# Altium schematic symbol library Schlib1.SchLib: 218 symbols (part 2 of 3)
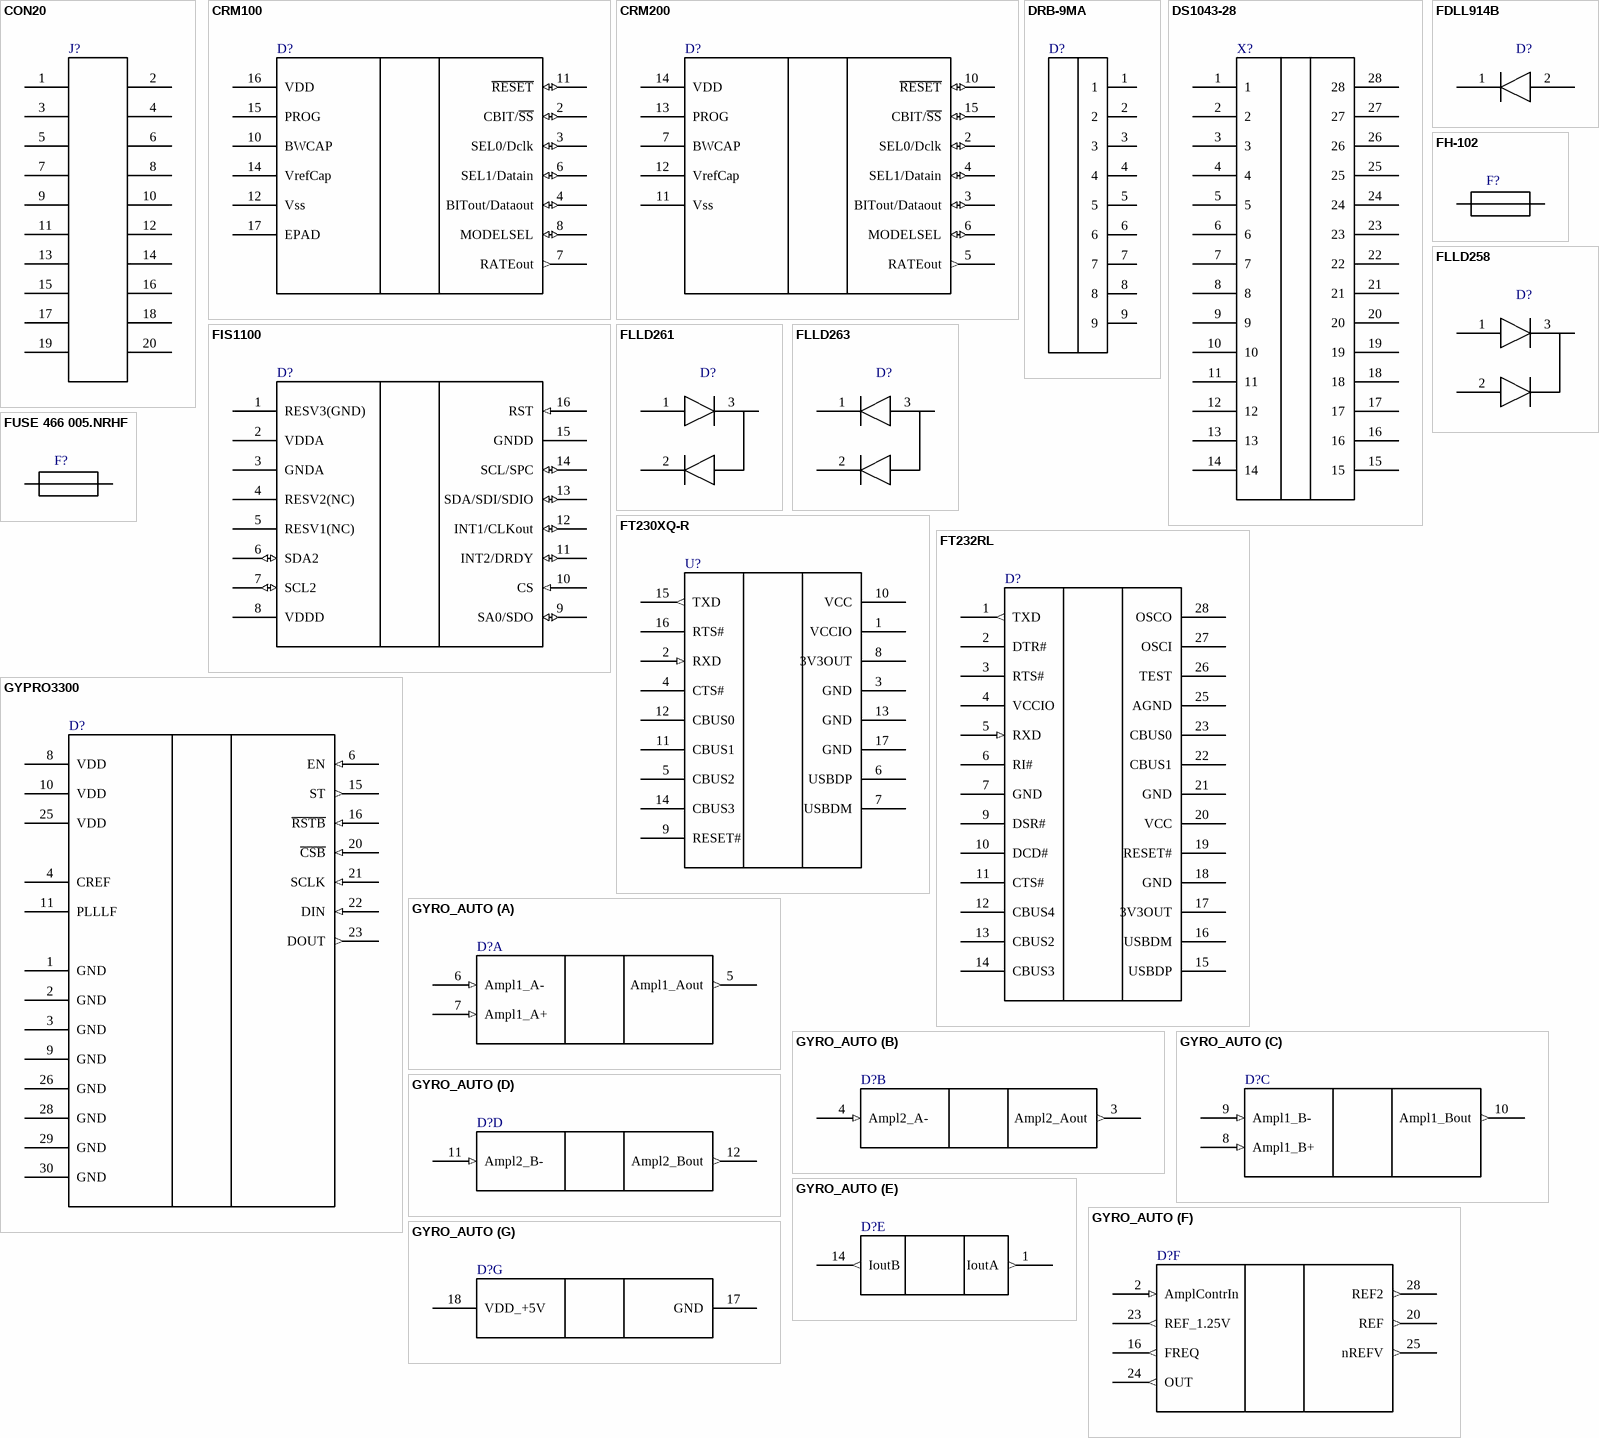
[diagram p18: symbols CON20 to GYRO_AUTO]

## FLLD261
designator D?  (value not drawn)
Manufacturer: Fairchild Semiconductor; Value: FLLD261
footprint SOT-23_DIODE (SOT23, 3-Leads, Body 2.92x2.30mm, Pitch 0.95mm, IPC High Density)
pins: 1, 2, 3

## FLLD263
designator D?  (value not drawn)
Manufacturer: Zetex; Value: FLLD263
footprint SOT-23_DIODE (SOT23, 3-Leads, Body 2.92x2.30mm, Pitch 0.95mm, IPC High Density)
pins: 1, 2, 3

## FT230XQ-R
designator U?  (value not drawn)
RS232 Driver/Receiver; Manufacturer: FTDI; Value: FT230XQ-R
footprint FT230XQ-R (QFN, 16-Leads, Body 4.00x4.00mm, Pitch 0.65mm, Thermal Pad 2.08x2.08mm, IPC High Density)
pins: 1 VCCIO (power), 2 RXD (in), 3 GND (power), 4 CTS#, 5 CBUS2, 6 USBDP, 7 USBDM, 8 3V3OUT (power), 9 RESET#, 10 VCC (power), 11 CBUS1, 12 CBUS0, 13 GND (power), 14 CBUS3, 15 TXD (out), 16 RTS#, 17 GND (power)

## FT232RL
designator D?  (value not drawn)
RS232 Driver/Receiver; Manufacturer: FTDI; Value: FT232RL
footprint FTR232RL (SOP, 28-Leads, Body 10.20x5.30mm, Pitch 0.65mm, IPC High Density)
pins: 1 TXD (out), 2 DTR#, 3 RTS#, 4 VCCIO (power), 5 RXD (in), 6 RI#, 7 GND (power), 8 NC hidden, 9 DSR#, 10 DCD#, 11 CTS#, 12 CBUS4, 13 CBUS2, 14 CBUS3, 15 USBDP, 16 USBDM, 17 3V3OUT (power), 18 GND (power), 19 RESET#, 20 VCC (power), 21 GND (power), 22 CBUS1, 23 CBUS0, 24 NC hidden, 25 AGND (power), 26 TEST, 27 OSCI, 28 OSCO

## FUSE 466 005.NRHF
designator F?, comment 466 005.NRHF  (value not drawn)
1206 466 005.NRHF fuse; Value: 466 005.NRHF
footprint FUSE466 005.NRHF (FUSE 5A 1206)
pins: 1, 2

## GYPRO3300
designator D?  (value not drawn)
Value: GYPRO3300
footprint GYPRO3300 (LCC, 30-Pins, Body 11.50x19.56mmx3.70mm, Pitch 1.27mm, IPC High Density)
pins: 1 GND (power), 2 GND (power), 3 GND (power), 4 CREF, 5 DNC hidden, 6 EN (in), 7 DNC hidden, 8 VDD (power), 9 GND (power), 10 VDD (power), 11 PLLLF, 12 DNC hidden, 13 DNC hidden, 14 DNC hidden, 15 ST (out), 16 ~{RSTB} (in), 17 DNC hidden, 18 DNC hidden, 19 DNC hidden, 20 ~{CSB} (in), 21 SCLK (in), 22 DIN (in), 23 DOUT (out), 24 DNC hidden, 25 VDD (power), 26 GND (power), 27 DNC hidden, 28 GND (power), 29 GND (power), 30 GND (power)

## GYRO_AUTO
designator D?, comment GYRO_AUTO_MIET  (value not drawn)
Interface 9 Gyro auto; Manufacturer: MIET; Value: GYRO_AUTO_MIET
footprint GYRO_AUTO (Interface 9 gyro auto)
part A pins: 5 Ampl1_Aout (out), 6 Ampl1_A- (in), 7 Ampl1_A+ (in), 13 (in) hidden, 15 (in) hidden, 19 (in) hidden, 21 (in) hidden, 22 (in) hidden, 26 (in) hidden, 27 (in) hidden
part B pins: 3 Ampl2_Aout (out), 4 Ampl2_A- (in)
part C pins: 8 Ampl1_B+ (in), 9 Ampl1_B- (in), 10 Ampl1_Bout (out)
part D pins: 11 Ampl2_B- (in), 12 Ampl2_Bout (out)
part E pins: 1 IoutA (out), 14 IoutB (out)
part F pins: 2 AmplContrIn (in), 16 FREQ (out), 20 REF (out), 23 REF_1.25V (out), 24 OUT (out), 25 nREFV (out), 28 REF2 (out)
part G pins: 17 GND (power), 18 VDD_+5V (power)

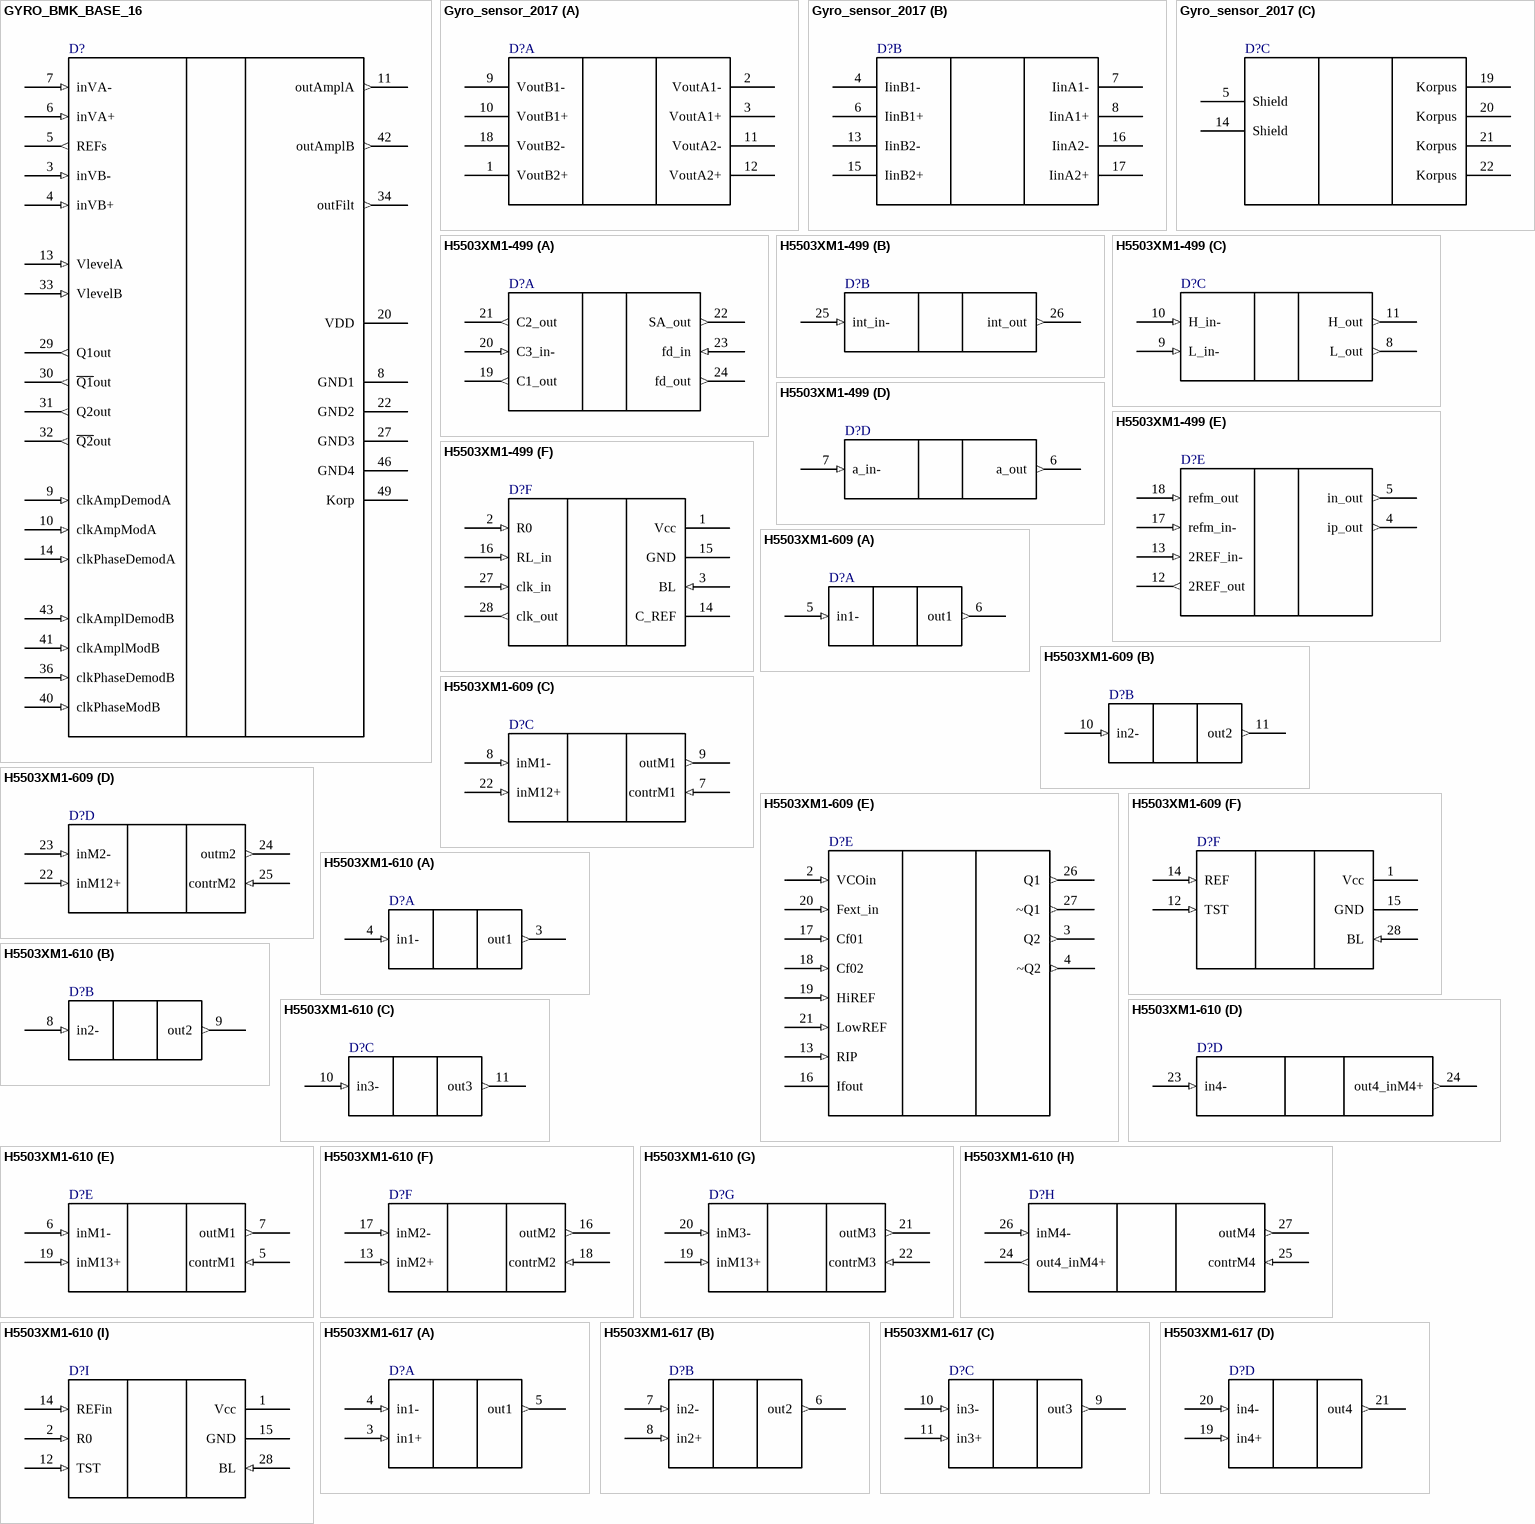
[diagram p6: symbols GYRO_BMK_BASE_16 to H5503XM1-617]

## GYRO_BMK_BASE_16
designator D?  (value not drawn)
Manufacturer: MIET; Value: GYRO_BMK_BASE_16
footprint GYRO_BMK_BASE_16
pins: 1 DNC (hiz) hidden, 2 DNC (hiz) hidden, 3 inVB- (in), 4 inVB+ (in), 5 REFs (out), 6 inVA+ (in), 7 inVA- (in), 8 GND1 (power), 9 clkAmpDemodA (in), 10 clkAmpModA (in), 11 outAmplA (out), 12 DNC (hiz) hidden, 13 VlevelA (in), 14 clkPhaseDemodA (in), 15 DNC (hiz) hidden, 16 DNC (hiz) hidden, 17 DNC (hiz) hidden, 18 DNC (hiz) hidden, 19 DNC (hiz) hidden, 20 VDD (power), 21 DNC (hiz) hidden, 22 GND2 (power), 23 DNC (hiz) hidden, 24 DNC (hiz) hidden, 25 DNC (hiz) hidden, 26 DNC (hiz) hidden, 27 GND3 (power), 28 DNC (hiz) hidden, 29 Q1out (out), 30 ~{Q1}out (out), 31 Q2out (out), 32 ~{Q2}out (out), 33 VlevelB (in), 34 outFilt (out), 35 DNC (hiz) hidden, 36 clkPhaseDemodB (in), 37 DNC (hiz) hidden, 38 DNC (hiz) hidden, 39 DNC (hiz) hidden, 40 clkPhaseModB (in), 41 clkAmplModB (in), 42 outAmplB (out), 43 clkAmplDemodB (in), 44 DNC (hiz) hidden, 45 DNC (hiz) hidden, 46 GND4 (power), 47 DNC (hiz) hidden, 48 DNC (hiz) hidden, 49 Korp

## Gyro_sensor_2017
designator D?, comment Gyro_Sensor  (value not drawn)
Manufacturer: MIET; Value: Gyro_Sensor
footprint Gyro_Sens_MIET_2017 (Ring gyroscope's sensor)
part A pins: 1 VoutB2+, 2 VoutA1-, 3 VoutA1+, 9 VoutB1-, 10 VoutB1+, 11 VoutA2-, 12 VoutA2+, 18 VoutB2-
part B pins: 4 IinB1-, 6 IinB1+, 7 IinA1-, 8 IinA1+, 13 IinB2-, 15 IinB2+, 16 IinA2-, 17 IinA2+
part C pins: 5 Shield, 14 Shield, 19 Korpus, 20 Korpus, 21 Korpus, 22 Korpus

## H5503XM1-499
designator D?  (value not drawn)
Value: H5503XM1-499
footprint LCC28 (LCC28, BMK, tcentr)
part A pins: 19 C1_out (out), 20 C3_in- (in), 21 C2_out (out), 22 SA_out (out), 23 fd_in (in), 24 fd_out (out)
part B pins: 25 int_in- (in), 26 int_out (out)
part C pins: 8 L_out (out), 9 L_in- (in), 10 H_in- (in), 11 H_out (out)
part D pins: 6 a_out (out), 7 a_in- (in)
part E pins: 4 ip_out (out), 5 in_out (out), 12 2REF_out (out), 13 2REF_in- (in), 17 refm_in- (in), 18 refm_out (in)
part F pins: 1 Vcc (power), 2 R0 (in), 3 BL (in), 14 C_REF, 15 GND (power), 16 RL_in (in), 27 clk_in (in), 28 clk_out (out)

## H5503XM1-609
designator D?  (value not drawn)
BMK, tcentr, firmware 609; Value: H5503XM1-609; Manufaturer: TCentr
footprint LCC28 (LCC28, BMK, tcentr)
part A pins: 5 in1- (in), 6 out1 (out)
part B pins: 10 in2- (in), 11 out2 (out)
part C pins: 7 contrM1 (in), 8 inM1- (in), 9 outM1 (out), 22 inM12+ (in)
part D pins: 22 inM12+ (in), 23 inM2- (in), 24 outm2 (out), 25 contrM2 (in)
part E pins: 2 VCOin (in), 3 Q2 (out), 4 ~Q2 (out), 13 RIP (in), 16 Ifout, 17 Cf01 (in), 18 Cf02 (in), 19 HiREF (in), 20 Fext_in (in), 21 LowREF (in), 26 Q1 (out), 27 ~Q1 (out)
part F pins: 1 Vcc (power), 12 TST (in), 14 REF (in), 15 GND (power), 28 BL (in)

## H5503XM1-610
designator D?  (value not drawn)
BMK, tcentr, firmware 610; Value: H5503XM1-610; Manufacturer: TCentr
footprint LCC28 (LCC28, BMK, tcentr)
part A pins: 3 out1 (out), 4 in1- (in)
part B pins: 8 in2- (in), 9 out2 (out)
part C pins: 10 in3- (in), 11 out3 (out)
part D pins: 23 in4- (in), 24 out4_inM4+ (out)
part E pins: 5 contrM1 (in), 6 inM1- (in), 7 outM1 (out), 19 inM13+ (in)
part F pins: 13 inM2+ (in), 16 outM2 (out), 17 inM2- (in), 18 contrM2 (in)
part G pins: 19 inM13+ (in), 20 inM3- (in), 21 outM3 (out), 22 contrM3 (in)
part H pins: 24 out4_inM4+ (out), 25 contrM4 (in), 26 inM4- (in), 27 outM4 (out)
part I pins: 1 Vcc (power), 2 R0 (in), 12 TST (in), 14 REFin (in), 15 GND (power), 28 BL (in)

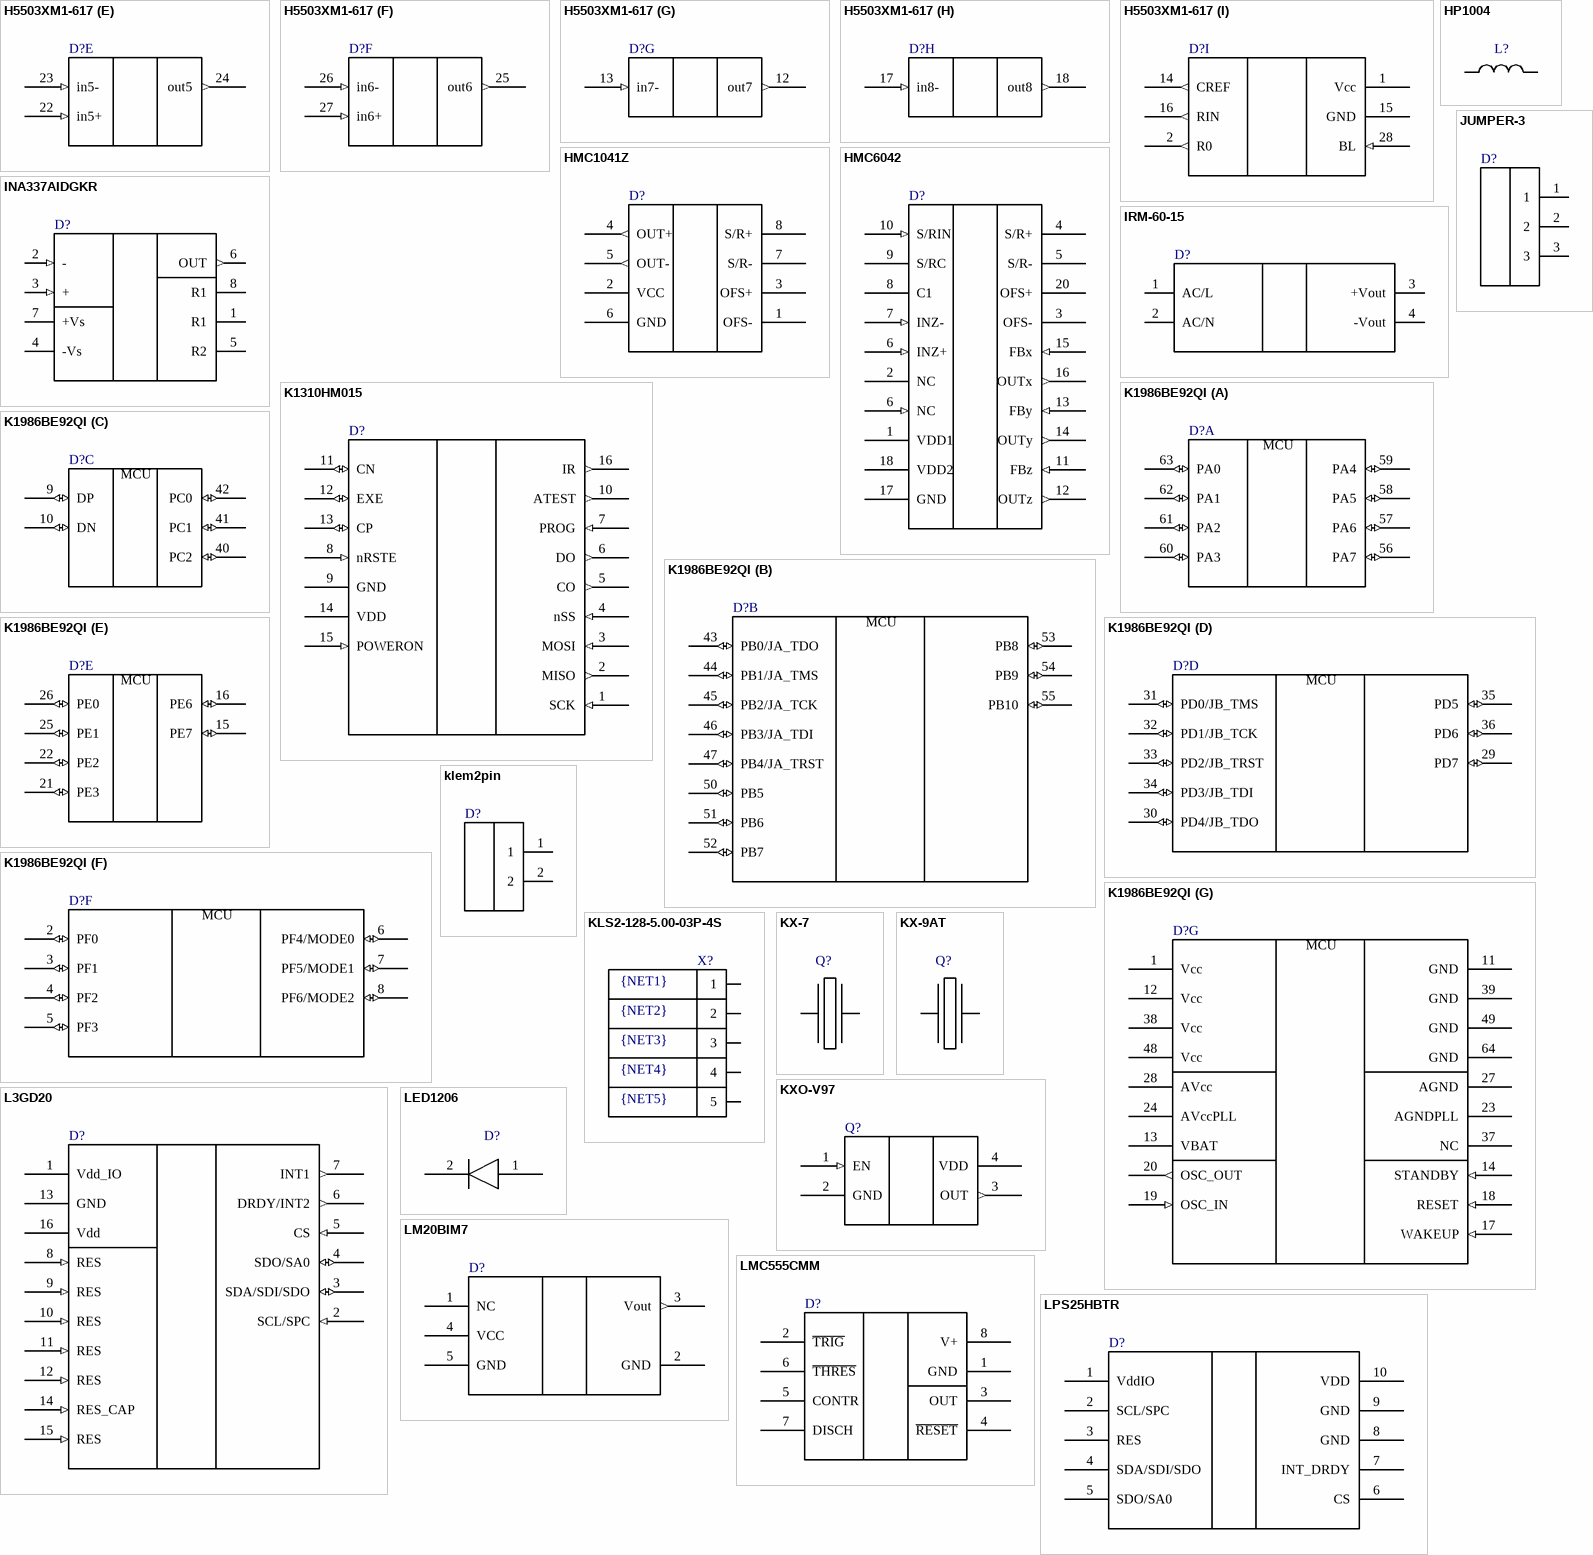
[diagram p7: symbols H5503XM1-617 to LPS25HBTR]

## H5503XM1-617
designator D?  (value not drawn)
BMK, tcentr, firmware 617; Value: H5503XM1-617; Manufacturer: TCentr
footprint LCC28 (LCC28, BMK, tcentr)
part A pins: 3 in1+ (in), 4 in1- (in), 5 out1 (out)
part B pins: 6 out2 (out), 7 in2- (in), 8 in2+ (in)
part C pins: 9 out3 (out), 10 in3- (in), 11 in3+ (in)
part D pins: 19 in4+ (in), 20 in4- (in), 21 out4 (out)
part E pins: 22 in5+ (in), 23 in5- (in), 24 out5 (out)
part F pins: 25 out6 (out), 26 in6- (in), 27 in6+ (in)
part G pins: 12 out7 (out), 13 in7- (in)
part H pins: 17 in8- (in), 18 out8 (out)
part I pins: 1 Vcc (power), 2 R0 (out), 14 CREF (out), 15 GND (power), 16 RIN (out), 28 BL (in)

## HMC1041Z
designator D?  (value not drawn)
Manufacturer: Honeywell; Value: HMC1041Z
footprint HMC1041Z (LCC, 8-Pins, Body 1.25x4.10mmx1.23mm, Pitch 0.50mm, IPC High Density)
pins: 1 OFS-, 2 VCC (power), 3 OFS+, 4 OUT+ (out), 5 OUT- (out), 6 GND (power), 7 S/R-, 8 S/R+

## HMC6042
designator D?  (value not drawn)
Manufacturer: Honeywell; Value: HMC6042
footprint HMC6042 (LCC, 20-Pins, Body 5.00x3.60mmx1.23mm, Pitch 0.50mm, IPC High Density)
pins: 1 VDD1 (power), 2 NC, 3 OFS-, 4 S/R+, 5 S/R-, 6 INZ+ (in), 6 NC (in), 7 INZ- (in), 8 C1, 9 S/RC, 10 S/RIN (in), 11 FBz (in), 12 OUTz (out), 13 FBy (in), 14 OUTy (out), 15 FBx (in), 16 OUTx (out), 17 GND (power), 18 VDD2 (power), 20 OFS+

## HP1004
designator L?  (value not drawn)
inductor HP1004; Value: *; Manufacturer: *
footprint HP1004 (Chip Inductor, 2-Leads, Body 11.30x10.50mm, IPC High Density)
pins: 1, 2

## INA337AIDGKR
designator D?  (value not drawn)
Wide-Temperature, Precision INSTRUMENTATION AMPLIFIER; Manufacturer: Texas Instruments; Value: INA337AIDGKR
footprint ADI-RM-8 (SOP, 8-Leads, Body 3x3mm, Pitch 0.65mm, IPC High Density)
pins: 1 R1, 2 - (in), 3 + (in), 4 -Vs (power), 5 R2, 6 OUT (out), 7 +Vs (power), 8 R1

## IRM-60-15
designator D?  (value not drawn)
AC/DC converter; Manufacturer: Mean Well; Value: IRM-60-15
footprint IRM-60-15 (AC/DC MeanWell)
pins: 1 AC/L, 2 AC/N, 3 +Vout, 4 -Vout

## JUMPER-3
designator D?  (value not drawn)
Value: JUMPER-3
footprint JUMPER-3
pins: 1, 2, 3

## K1310HM015
designator D?  (value not drawn)
Capacitance-to-digital converter; HelpURL: http://milandr.ru/index.php?mact=Products,cntnt01,details,0&cntnt01productid=288&cntnt01returnid=68
footprint 5119.16-A (Milandr 5119.16-A)
pins: 1 SCK (in), 2 MISO (out), 3 MOSI (in), 4 nSS (in), 5 CO (out), 6 DO (out), 7 PROG (in), 8 nRSTE (in), 9 GND (power), 10 ATEST (out), 11 CN (io), 12 EXE (io), 13 CP (io), 14 VDD (power), 15 POWERON (in), 16 IR (out)

## K1986BE92QI
designator D?  (value not drawn)
32-разрядный микроконтроллер на базе процессорного ядра ARM Cortex-M3; Manufacturer: МИЛАНДР; Value: K1986BE92QI; HelpURL: http://milandr.ru/uploads/Products/product_80/spec_seriya_1986BE9x.pdf
footprint LQFP64-Milandr (TSQFP, 64-Leads, Body 10.00x10.00mm, Pitch 0.50mm, IPC High Density)
part A pins: 56 PA7 (io), 57 PA6 (io), 58 PA5 (io), 59 PA4 (io), 60 PA3 (io), 61 PA2 (io), 62 PA1 (io), 63 PA0 (io)
part B pins: 43 PB0/JA_TDO (io), 44 PB1/JA_TMS (io), 45 PB2/JA_TCK (io), 46 PB3/JA_TDI (io), 47 PB4/JA_TRST (io), 50 PB5 (io), 51 PB6 (io), 52 PB7 (io), 53 PB8 (io), 54 PB9 (io), 55 PB10 (io)
part C pins: 9 DP (io), 10 DN (io), 40 PC2 (io), 41 PC1 (io), 42 PC0 (io)
part D pins: 29 PD7 (io), 30 PD4/JB_TDO (io), 31 PD0/JB_TMS (io), 32 PD1/JB_TCK (io), 33 PD2/JB_TRST (io), 34 PD3/JB_TDI (io), 35 PD5 (io), 36 PD6 (io)
part E pins: 15 PE7 (io), 16 PE6 (io), 21 PE3 (io), 22 PE2 (io), 25 PE1 (io), 26 PE0 (io)
part F pins: 2 PF0 (io), 3 PF1 (io), 4 PF2 (io), 5 PF3 (io), 6 PF4/MODE0 (io), 7 PF5/MODE1 (io), 8 PF6/MODE2 (io)
part G pins: 1 Vcc (power), 11 GND (power), 12 Vcc (power), 13 VBAT (power), 14 STANDBY (in), 17 WAKEUP (in), 18 RESET (in), 19 OSC_IN (in), 20 OSC_OUT (out), 23 AGNDPLL (power), 24 AVccPLL (power), 27 AGND (power), 28 AVcc (power), 37 NC, 38 Vcc (power), 39 GND (power), 48 Vcc (power), 49 GND (power), 64 GND (power)
part A text: MCU
part B text: MCU
part C text: MCU
part D text: MCU
part E text: MCU
part F text: MCU
part G text: MCU

## klem2pin
designator D?, comment DG308-2.54-02P-14-00AH  (value not drawn)
Value: DG308-2.54-02P-14-00AH
footprint DG308-2.54-02P-14-00AH
pins: 1, 2

## KLS2-128-5.00-03P-4S
designator X?  NET1: {NET1}  NET2: {NET2}  NET3: {NET3}  NET4: {NET4}  NET5: {NET5}  (hidden comment: KLS2-128-5.00-03P-4S)
Value: KLS2-128-5.00-03P-4S
footprint KLS2-128-5.00-03P-4S
pins: 1, 2, 3, 4, 5

## KX-7
designator Q?  (value not drawn)
Manufacturer: Geyer; ValueComment: 32.0MHz; Value: KX-7
footprint KX-7 (KX-7 Crystal)
pins: 1, 2

## KX-9AT
designator Q?, comment KX-9AT 8.1920 MHz  (value not drawn)
Value: KX-9AT 8.1920 MHz
footprint KX-9AT (DFN, 4-Leads, Body 3.20x5.00mm, Pitch 3.70mm, IPC High Density)
pins: 1, 2 hidden, 3, 4 hidden

## KXO-V97
designator Q?  (value not drawn)
Quartz generator KXO-V97, 3.3V; Mahufacturer: GEYER De; HelpURL: http://www.geyer-electronic.com/uploads/tx_userartikelfrequenz/GEYER-KXO-V97-V2.pdf; Value: KXO-V97; ValueComment: *
footprint KXO-V97 (Quartz generator, 3.3V)
pins: 1 EN (in), 2 GND (power), 3 OUT (out), 4 VDD (power)

## L3GD20
designator D?  (value not drawn)
MEMS digital gyroscope; Manufacturer: STMicroelectronics; HelpURL: http://www.st.com/st-web-ui/static/active/en/resource/technical/document/datasheet/DM00036465.pdf; ComponentLink1URL: http://www.st.com/st-web-ui/static/active/en/resource/technical/document/datasheet/DM00036465.pdf; ComponentLink1Description: L3GD20 datasheet; Supplier 1: Mouser; Supplier 2: Farnell; Supplier 3: Digi-Key; Supplier 4: Mouser; Supplier 5: Arrow; Supplier 6: Digi-Key; Supplier Part Number 1: 511-L3GD20TR; Supplier Part Number 2: 2295818; Supplier Part Number 3: 497-12081-1-ND; Supplier Part Number 4: 511-L3GD20; Supplier Part Number 5: E9I2vlaV8WUyiI-qzARRVukhFGiY6BIaRa7zSMsfJXg; Supplier Part Number 6: 497-12081-6-ND; Value: L3GD20
footprint LGA-16 (LGA-16, STMicroelectronics)
pins: 1 Vdd_IO (power), 2 SCL/SPC (in), 3 SDA/SDI/SDO (io), 4 SDO/SA0 (io), 5 CS (in), 6 DRDY/INT2 (out), 7 INT1 (out), 8 RES (in), 9 RES (in), 10 RES (in), 11 RES (in), 12 RES (in), 13 GND (power), 14 RES_CAP (in), 15 RES (in), 16 Vdd (power)

## LED1206
designator D?  (value not drawn)
Manufacturer: SMD; Value: LED1206
footprint LED1206
pins: 1, 2

## LM20BIM7
designator D?  (value not drawn)
LM20 2.4-V, 10-μA, SC70, DSBGA Temperature Sensor; Manufacturer: Texas Instruments; Value: LM20BIM7
footprint LM20BIM7 (SOT23, 5-Leads, Body 2.90x2.80mm, Pitch 0.95mm, IPC High Density)
pins: 1 NC, 2 GND (power), 3 Vout (out), 4 VCC (power), 5 GND (power)

## LMC555CMM
designator D?  (value not drawn)
555 timer; Manufacturer: TI; Value: LMC555CMM
footprint ADI-RM-8 (SOP, 8-Leads, Body 3x3mm, Pitch 0.65mm, IPC High Density)
pins: 1 GND (power), 2 ~{TRIG}, 3 OUT, 4 ~{RESET}, 5 CONTR, 6 ~{THRES}, 7 DISCH, 8 V+ (power)

## LPS25HBTR
designator D?  (value not drawn)
MEMS pressure sensor: 260-1260 hPa absolute digital output barometer; Manufacturer: STMicroelectronics; Value: LPS25HBTR
footprint ST_HLGA_10L (QFN, 10-Leads, Body 2.50x2.50mm, Pitch 0.60mm, IPC High Density)
pins: 1 VddIO (power), 2 SCL/SPC, 3 RES, 4 SDA/SDI/SDO, 5 SDO/SA0, 6 CS, 7 INT_DRDY, 8 GND (power), 9 GND (power), 10 VDD (power)

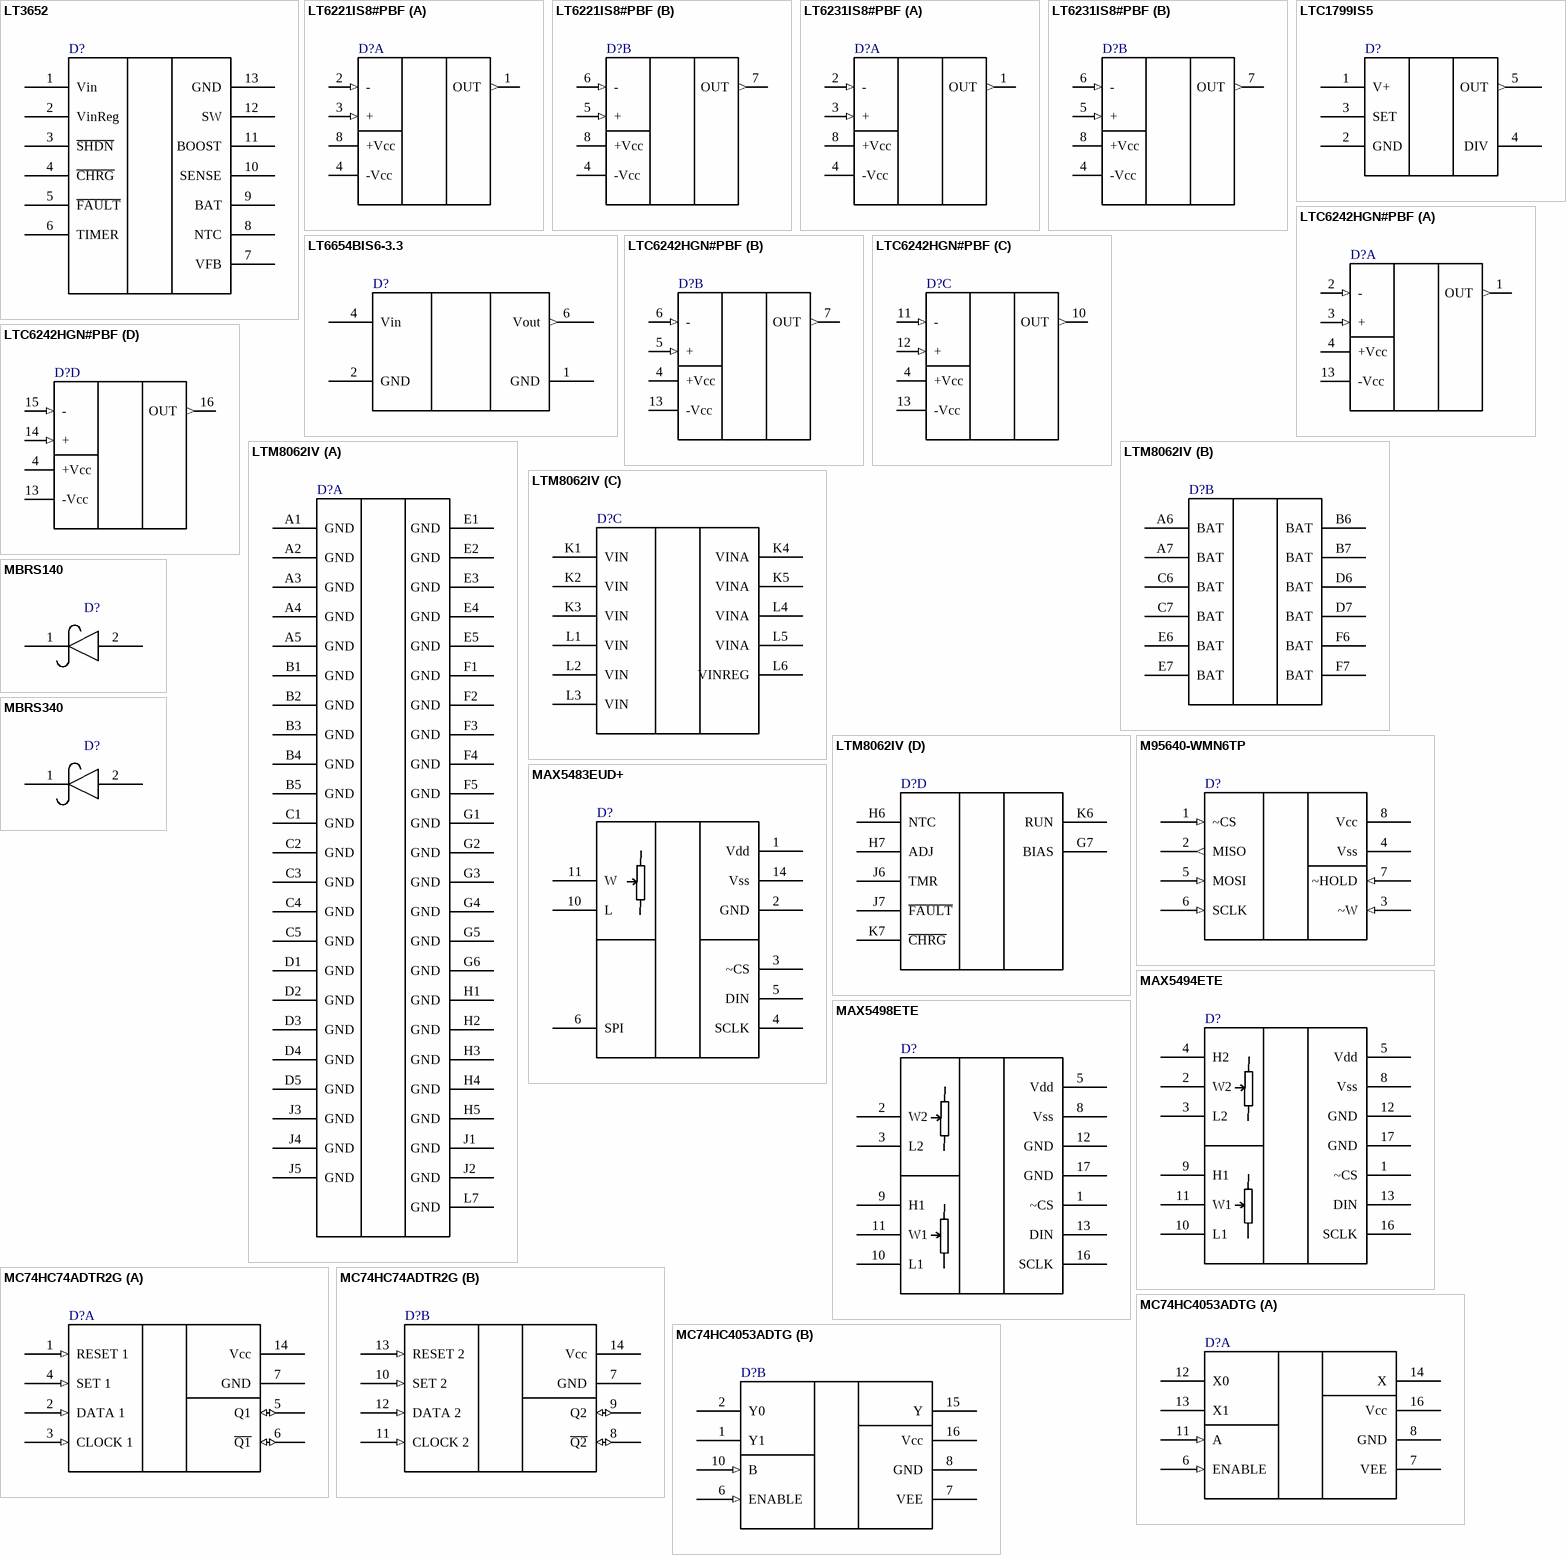
[diagram p8: symbols LT3652 to MC74HC4053ADTG]

## LT3652
designator D?, comment LT3652IMSE#PBF  (value not drawn)
Power tracking 2A battery charger for solar power; Manufacturer: Linear Technologies; Value: LT3652IMSE#PBF
footprint LT3652_MSOP (TSOP, 12-Leads, Body 4.04x3.00mm, Pitch 0.65mm, Thermal Pad 2.90x1.70mm, IPC High Density)
pins: 1 Vin (power), 2 VinReg (power), 3 ~{SHDN}, 4 ~{CHRG}, 5 ~{FAULT}, 6 TIMER, 7 VFB, 8 NTC, 9 BAT, 10 SENSE, 11 BOOST, 12 SW, 13 GND

## LT6221IS8#PBF
designator D?  (value not drawn)
Manufacturer: Linear Technology; Value: LT6221IS8#PBF
footprint LT_PSO8 (SOIC, 8-Leads, Body 4.90x3.90mm, Pitch 1.27mm, IPC High Density)
part A pins: 1 OUT (out), 2 - (in), 3 + (in), 4 -Vcc (power), 8 +Vcc (power)
part B pins: 4 -Vcc (power), 5 + (in), 6 - (in), 7 OUT (out), 8 +Vcc (power)

## LT6231IS8#PBF
designator D?  (value not drawn)
Manufacturer: Linear Technology; Value: LT6231IS8#PBF
footprint LT_PSO8 (SOIC, 8-Leads, Body 4.90x3.90mm, Pitch 1.27mm, IPC High Density)
part A pins: 1 OUT (out), 2 - (in), 3 + (in), 4 -Vcc (power), 8 +Vcc (power)
part B pins: 4 -Vcc (power), 5 + (in), 6 - (in), 7 OUT (out), 8 +Vcc (power)

## LT6654BIS6-3.3
designator D?  (value not drawn)
Value: LT6654BIS6-3.3
footprint ADI_LT_TSOT23-6 (SOT23, 6-Leads, Body 2.90x2.80mm, Pitch 0.95mm, IPC High Density)
pins: 1 GND (power), 2 GND (power), 3 DNC (hiz) hidden, 4 Vin (power), 5 DNC (hiz) hidden, 6 Vout (out)

## LTC1799IS5
designator D?  (value not drawn)
1kHz to 33MHz resistor-set oscillator; Manufacturer: Linear Technology; Value: LTC1799IS5
footprint SOT-23 LTC (SOT23, 5-Leads, Body 2.90x2.80mm, Pitch 0.95mm, IPC High Density)
pins: 1 V+ (power), 2 GND (power), 3 SET, 4 DIV, 5 OUT (out)

## LTC6242HGN#PBF
designator D?  (value not drawn)
Manufacturer: Linear Technology; Value: LTC6242HGN#PBF
footprint LT_SSOP16 (SOP, 16-Leads, Body 4.89x3.90mm, Pitch 0.64mm, IPC High Density)
part A pins: 1 OUT (out), 2 - (in), 3 + (in), 4 +Vcc (power), 13 -Vcc (power)
part B pins: 4 +Vcc (power), 5 + (in), 6 - (in), 7 OUT (out), 13 -Vcc (power)
part C pins: 4 +Vcc (power), 10 OUT (out), 11 - (in), 12 + (in), 13 -Vcc (power)
part D pins: 4 +Vcc (power), 8 NC hidden, 9 NC hidden, 13 -Vcc (power), 14 + (in), 15 - (in), 16 OUT (out)

## LTM8062IV
designator D?  (value not drawn)
32V  IN  , 2A μModule Power   Tracking Battery Charger; Manufacturer: Linear Technology; Value: LTM8062IV
footprint LTM8062 (LGA, 77-Leads, Body 9.00x15.00mmx4.42mm, Pitch 1.27mm)
part A pins: A1 GND (power), A2 GND (power), A3 GND (power), A4 GND (power), A5 GND (power), B1 GND (power), B2 GND (power), B3 GND (power), B4 GND (power), B5 GND (power), C1 GND (power), C2 GND (power), C3 GND (power), C4 GND (power), C5 GND (power), D1 GND (power), D2 GND (power), D3 GND (power), D4 GND (power), D5 GND (power), E1 GND (power), E2 GND (power), E3 GND (power), E4 GND (power), E5 GND (power), F1 GND (power), F2 GND (power), F3 GND (power), F4 GND (power), F5 GND (power), G1 GND (power), G2 GND (power), G3 GND (power), G4 GND (power), G5 GND (power), G6 GND (power), H1 GND (power), H2 GND (power), H3 GND (power), H4 GND (power), H5 GND (power), J1 GND (power), J2 GND (power), J3 GND (power), J4 GND (power), J5 GND (power), L7 GND (power)
part B pins: A6 BAT (power), A7 BAT (power), B6 BAT (power), B7 BAT (power), C6 BAT (power), C7 BAT (power), D6 BAT (power), D7 BAT (power), E6 BAT (power), E7 BAT (power), F6 BAT (power), F7 BAT (power)
part C pins: K1 VIN (power), K2 VIN (power), K3 VIN (power), K4 VINA (power), K5 VINA (power), L1 VIN (power), L2 VIN (power), L3 VIN (power), L4 VINA (power), L5 VINA (power), L6 VINREG (power)
part D pins: G7 BIAS, H6 NTC, H7 ADJ, J6 TMR, J7 ~{FAULT}, K6 RUN, K7 ~{CHRG}

## M95640-WMN6TP
designator D?  (value not drawn)
64Kbit SPI EEPROM; Manufacturer: STMicroelectronics; Value: M95640-WMN6TP
footprint ST-SO8N (SOIC, 8-Leads, Body 4.90x3.90mm, Pitch 1.27mm, IPC High Density)
pins: 1 ~CS (in) "Chip select", 2 MISO (out) "Serial data output", 3 ~W (in) "Write protect", 4 Vss (power) "GND", 5 MOSI (in) "Serial data input", 6 SCLK (in) "Serial clock", 7 ~HOLD (in) "Hold", 8 Vcc (power) "Vsupply"

## MAX5483EUD+
designator D?  (value not drawn)
10-Bit, Nonvolatile, Linear-Taper Digital Potentiometers; Manufacturer: MAXIM; Value: MAX5483EUD+
footprint MAXIM TSSOP-14 (TSOP, 14-Leads, Body 5.00x4.40mm, Pitch 0.65mm, IPC High Density)
pins: 1 Vdd (power), 2 GND (power), 3 ~CS, 4 SCLK, 5 DIN, 6 SPI, 7 NC hidden, 8 NC hidden, 9 NC hidden, 10 L, 11 W, 12 NC hidden, 13 NC hidden, 14 Vss (power)

## MAX5494ETE
designator D?  (value not drawn)
10-Bit, Dual, Nonvolatile, Linear-Taper Digital Potentiometers; Manufacturer: MAXIM; Value: MAX5494ETE
footprint MAXIM_16_TQFN-EP (QFN, 16-Leads, Body 5.00x5.00mm, Pitch 0.80mm, Thermal Pad 3.10x3.10mm, IPC Medium Density)
pins: 1 ~CS, 2 W2, 3 L2, 4 H2, 5 Vdd (power), 6 NC hidden, 7 NC hidden, 8 Vss (power), 9 H1, 10 L1, 11 W1, 12 GND (power), 13 DIN, 14 NC hidden, 15 NC hidden, 16 SCLK, 17 GND (power)

## MAX5498ETE
designator D?  (value not drawn)
Manufacturer: MAXIM; Value: MAX5498ETE
footprint MAXIM_16_TQFN-EP (QFN, 16-Leads, Body 5.00x5.00mm, Pitch 0.80mm, Thermal Pad 3.10x3.10mm, IPC Medium Density)
pins: 1 ~CS, 2 W2, 3 L2, 4 NC hidden, 5 Vdd (power), 6 NC hidden, 7 NC hidden, 8 Vss (power), 9 H1, 10 L1, 11 W1, 12 GND (power), 13 DIN, 14 NC hidden, 15 NC hidden, 16 SCLK, 17 GND (power)

## MBRS140
designator D?  (value not drawn)
Manufacturer: Fairchild; Value: MBRS140
footprint MBRS140 (DFN, 2-Leads, Body 3.63x5.34mm, Pitch 4.70mm, IPC High Density)
pins: 1, 2

## MBRS340
designator D?  (value not drawn)
Manufacturer: Fairchild; Value: MBRS340
footprint MBRS340 (DFN, 2-Leads, Body 6.9x5.9mm, Pitch 4.70mm, IPC High Density)
pins: 1, 2

## MC74HC74ADTR2G
designator D?  (value not drawn)
Dual D Flip-Flop with Set and Reset; Manufacturer: ON Semicondustor; Value: MC74HC74ADTR2G
footprint TSSOP-14 (TSOP, 14-Leads, Body 5.00x4.40mm, Pitch 0.65mm, IPC High Density)
part A pins: 1 RESET 1 (in), 2 DATA 1 (in), 3 CLOCK 1 (in), 4 SET 1 (in), 5 Q1 (io), 6 ~{Q1} (io), 7 GND (power), 14 Vcc (power)
part B pins: 7 GND (power), 8 ~{Q2} (io), 9 Q2 (io), 10 SET 2 (in), 11 CLOCK 2 (in), 12 DATA 2 (in), 13 RESET 2 (in), 14 Vcc (power)

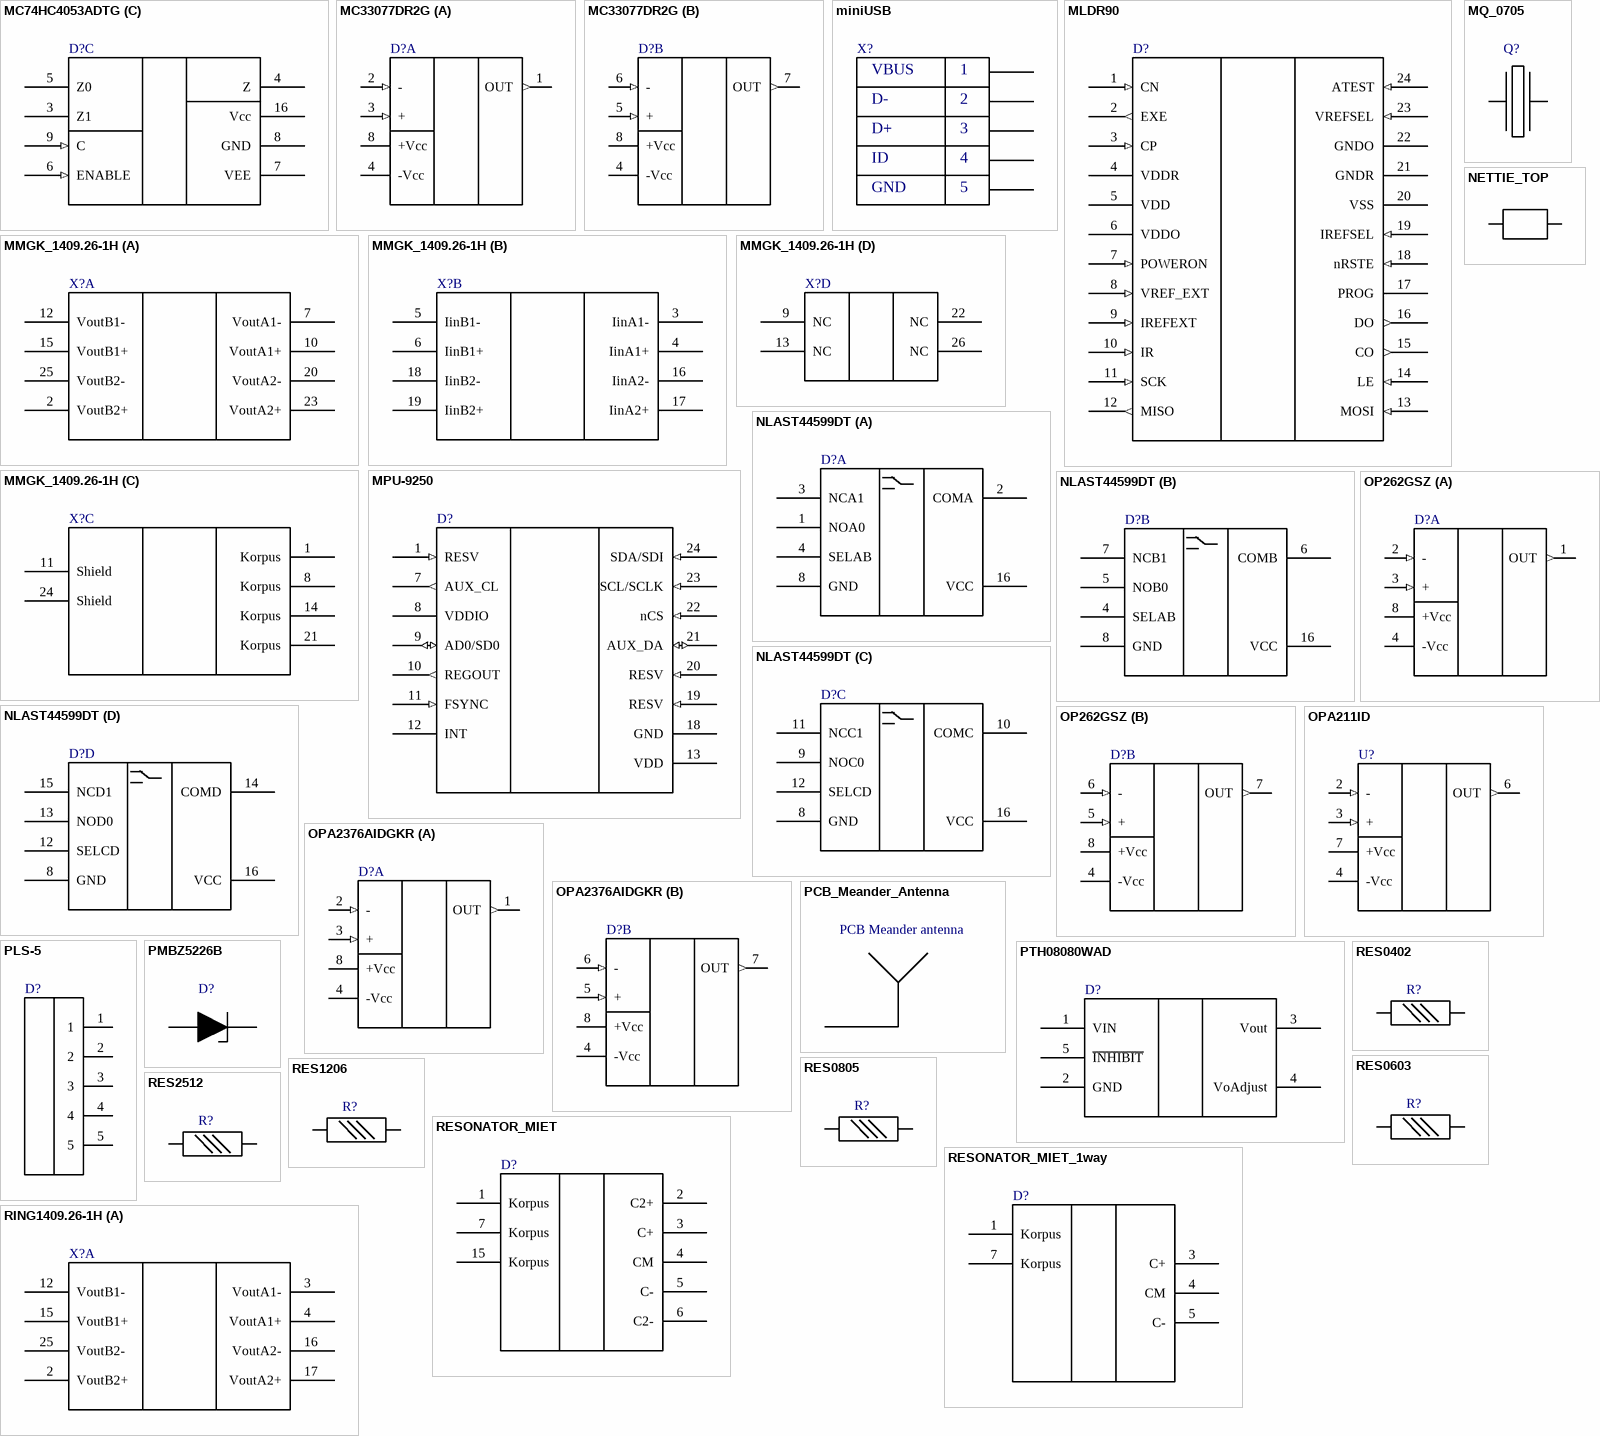
[diagram p9: symbols MC74HC4053ADTG to RING1409.26-1H]

## MC74HC4053ADTG
designator D?  (value not drawn)
Analog Multiplexer/ Demultiplexer; Manufacturer: ON Semiconductor; Value: MC74HC4053ADTG
footprint ADI-RU-16_L (TSOP, 16-Leads, Body 5x4.4mm, Pitch 0.65mm, IPC High Density)
part A pins: 6 ENABLE (in), 7 VEE (power), 8 GND (power), 11 A (in), 12 X0, 13 X1, 14 X, 16 Vcc (power)
part B pins: 1 Y1, 2 Y0, 6 ENABLE (in), 7 VEE (power), 8 GND (power), 10 B (in), 15 Y, 16 Vcc (power)
part C pins: 3 Z1, 4 Z, 5 Z0, 6 ENABLE (in), 7 VEE (power), 8 GND (power), 9 C (in), 16 Vcc (power)

## MC33077DR2G
designator D?  (value not drawn)
Low Noise Dual Operational Amplifier; Manufacturer: ON Semiconductor; Value: MC33077DR2G
footprint ADI_SOIC-8_R-8 (SOIC, 8-Leads, Body 4.90x3.90mm, Pitch 1.27mm, IPC High Density)
part A pins: 1 OUT (out), 2 - (in), 3 + (in), 4 -Vcc (power), 8 +Vcc (power)
part B pins: 4 -Vcc (power), 5 + (in), 6 - (in), 7 OUT (out), 8 +Vcc (power)

## miniUSB
designator X?, comment USB/M-1J  (value not drawn)
Value: USB/M-1J
footprint miniUSB_alt (mini USB connector)
pins: 1 V BUS "USB Vcc [Red]", 2 D- "USB Data - [White]", 3 D+ "USB Data + [Green]", 4 ID, 5 GND "Ground [Black]"
text: VBUS

## MLDR90
designator D?  (value not drawn)
MLDR90, 1310HM01; Manufacturer: Миландр; Value: MLDR90
footprint CHIP24 (Chip-24, MLDR90, Milandr 1310HM01)
pins: 1 CN (in), 2 EXE (out), 3 CP (in), 4 VDDR (power), 5 VDD (power), 6 VDDO (power), 7 POWERON (in), 8 VREF_EXT (in), 9 IREFEXT (in), 10 IR (in), 11 SCK (in), 12 MISO (out), 13 MOSI (in), 14 LE (in), 15 CO (out), 16 DO (out), 17 PROG (power), 18 nRSTE (in), 19 IREFSEL (in), 20 VSS (power), 21 GNDR (power), 22 GNDO (power), 23 VREFSEL (in), 24 ATEST (in)

## MMGK_1409.26-1H
designator X?  (value not drawn)
Manufacturer: MIET; Value: MMGK_1409.26-1H
footprint 1409.26-1H
part A pins: 2 VoutB2+, 7 VoutA1-, 10 VoutA1+, 12 VoutB1-, 15 VoutB1+, 20 VoutA2-, 23 VoutA2+, 25 VoutB2-
part B pins: 3 IinA1-, 4 IinA1+, 5 IinB1-, 6 IinB1+, 16 IinA2-, 17 IinA2+, 18 IinB2-, 19 IinB2+
part C pins: 1 Korpus, 8 Korpus, 11 Shield, 14 Korpus, 21 Korpus, 24 Shield
part D pins: 9 NC, 13 NC, 22 NC, 26 NC

## MPU-9250
designator D?  (value not drawn)
MPU-9250, motion trackong device, 3x accel, 3x gyro, 3x magnetometer; Manufacturer: Invensense; HelpURL: http://43zrtwysvxb2gf29r5o0athu.wpengine.netdna-cdn.com/wp-content/uploads/2015/02/MPU-9250-Datasheet.pdf; Value: MPU-9250
footprint QFN-24 (QFN, 24-Leads, Body 3.00x3.00mm, Pitch 0.40mm, Thermal Pad 1.70x1.54mm, IPC High Density)
pins: 1 RESV (in), 2 NC hidden, 3 NC hidden, 4 NC hidden, 5 NC hidden, 6 NC hidden, 7 AUX_CL (out), 8 VDDIO (power), 9 AD0/SD0 (io), 10 REGOUT (out), 11 FSYNC (in), 12 INT (oc), 13 VDD (power), 14 NC hidden, 15 NC hidden, 16 NC hidden, 17 NC hidden, 18 GND (power), 19 RESV (in), 20 RESV (in), 21 AUX_DA (io), 22 nCS (in), 23 SCL/SCLK (in), 24 SDA/SDI (in)

## MQ_0705
designator Q?  (value not drawn)
ValueComment: 25.0MHz; Value: MQ_0705
footprint MQ_0705 (DFN, 4-Leads, Body 5.00x7.00mm, Pitch 7.00mm, IPC High Density)
pins: 1 4 hidden, 2 1, 3 hidden, 4 2

## NETTIE_TOP
designator N?  (value not drawn)  (net tie, no BOM)
NET TIE TOP
footprint NetTie
pins: 1, 2

## NLAST44599DT
designator D?  (value not drawn)
Manufacturer: ONSemiconductor; Value: NLAST44599DT
footprint ONSEMI_TSSOP-16 (TSOP, 16-Leads, Body 5.00x4.40mm, Pitch 0.65mm, IPC High Density)
part A pins: 1 NOA0, 2 COMA, 3 NCA1, 4 SELAB, 8 GND (power), 16 VCC (power)
part B pins: 4 SELAB, 5 NOB0, 6 COMB, 7 NCB1, 8 GND (power), 16 VCC (power)
part C pins: 8 GND (power), 9 NOC0, 10 COMC, 11 NCC1, 12 SELCD, 16 VCC (power)
part D pins: 8 GND (power), 12 SELCD, 13 NOD0, 14 COMD, 15 NCD1, 16 VCC (power)

## OP262GSZ
designator D?  (value not drawn)
15 MHz Rail-to-Rail  Operational Amplifier; Manufacturer: ADI; Value: OP262GSZ
footprint OP262GSZ (SOIC, 8-Leads, Body 4.90x3.90mm, Pitch 1.27mm, IPC High Density)
part A pins: 1 OUT (out), 2 - (in), 3 + (in), 4 -Vcc (power), 8 +Vcc (power)
part B pins: 4 -Vcc (power), 5 + (in), 6 - (in), 7 OUT (out), 8 +Vcc (power)

## OPA211ID
designator U?  (value not drawn)
Manufacturer: Texas Instruments; Value: OPA211ID
footprint ADI_SOIC-8_R-8 (SOIC, 8-Leads, Body 4.90x3.90mm, Pitch 1.27mm, IPC High Density)
pins: 1 NC hidden, 2 - (in), 3 + (in), 4 -Vcc (power), 5 NC hidden, 6 OUT (out), 7 +Vcc (power), 8 NC hidden

## OPA2376AIDGKR
designator D?  (value not drawn)
Low-Noise, LowQuiescent Current, PrecisionOperational Amplifier e-trimSeries; Manufacturer: Texas Instruments; Value: OPA2376AIDGKR
footprint ADI-RM-8 (SOP, 8-Leads, Body 3x3mm, Pitch 0.65mm, IPC High Density)
part A pins: 1 OUT (out), 2 - (in), 3 + (in), 4 -Vcc (power), 8 +Vcc (power)
part B pins: 4 -Vcc (power), 5 + (in), 6 - (in), 7 OUT (out), 8 +Vcc (power)

## PCB_Meander_Antenna
designator A?, comment PCB meander antenna  (value not drawn)
PCB meander antenna for BLUENRG
footprint PCB_Meander_Antenna
pins: 1
text: PCB Meander antenna

## PLS-5
designator D?  (value not drawn)
Value: PLS-5
footprint PLS-5
pins: 1, 2, 3, 4, 5

## PMBZ5226B
designator D?  (value not drawn)
Manufacturer: Phillips Semicondustor; Value: PMBZ5226B
footprint SOT23-NXP (SOT23, 3-Leads, Body 2.90x2.30mm, Pitch 0.95mm, IPC High Density)
pins: 1, 2 (hiz) hidden, 3

## PTH08080WAD
designator D?  (value not drawn)
2.25-A, WIDE-INPUT ADJUSTABLE SWITCHING REGULATOR; Manufacturer: TI; Value: PTH08080WAD
footprint PTH08080WAD
pins: 1 VIN (power), 2 GND (power), 3 Vout (power), 4 VoAdjust, 5 ~{INHIBIT}

## RES0402
designator R?  (value not drawn)
Chip resistor 0402; Value: *; Manufacturer: *
footprint RES_0402 (Chip Resistor, 2-Leads, 0402, IPC High Density)
pins: 1, 2

## RES0603
designator R?  (value not drawn)
Chip resistor 0603; Value: *; Manufacturer: *
footprint RES0603 (Chip Resistor, 2-Leads, 0603, IPC High Density)
pins: 1, 2

## RES0805
designator R?  (value not drawn)
Chip resistor 0805; Value: *; Manufacturer: *
footprint RES0805 (Chip Resistor, 2-Leads, Body 2.00x1.25mm, IPC Medium Density)
pins: 1, 2

## RES1206
designator R?  (value not drawn)
Chip resistor 1206; Value: *; Manufacturer: *
footprint RES1206 (Chip Resistor, 2-Leads, Body 3.10x1.60mm, IPC High Density)
pins: 1, 2

## RES2512
designator R?  (value not drawn)
Chip resistor 2512; Value: *; Manufacturer: *
footprint RES2512 (Chip Resistor, 2-Leads, Body 6.35x3.20mm, IPC High Density)
pins: 1, 2

## RESONATOR_MIET
designator D?, comment MIET_Freq_Sensor  (value not drawn)
RESONATOR_MIET; Manufacturer: MIET; Value: MIET_Freq_Sensor
footprint 151.15-8
pins: 1 Korpus, 2 C2+, 3 C+, 4 CM, 5 C-, 6 C2-, 7 Korpus, 8 hidden, 9 hidden, 10 hidden, 11 hidden, 12 hidden, 13 hidden, 14 hidden, 15 Korpus

## RESONATOR_MIET_1way
designator D?, comment MIET_Freq_Sensor  (value not drawn)
RESONATOR_MIET_1way; Manufacturer: MIET; Value: MIET_Freq_Sensor
footprint 151.15-8_1way
pins: 1 Korpus, 3 C+, 4 CM, 5 C-, 7 Korpus

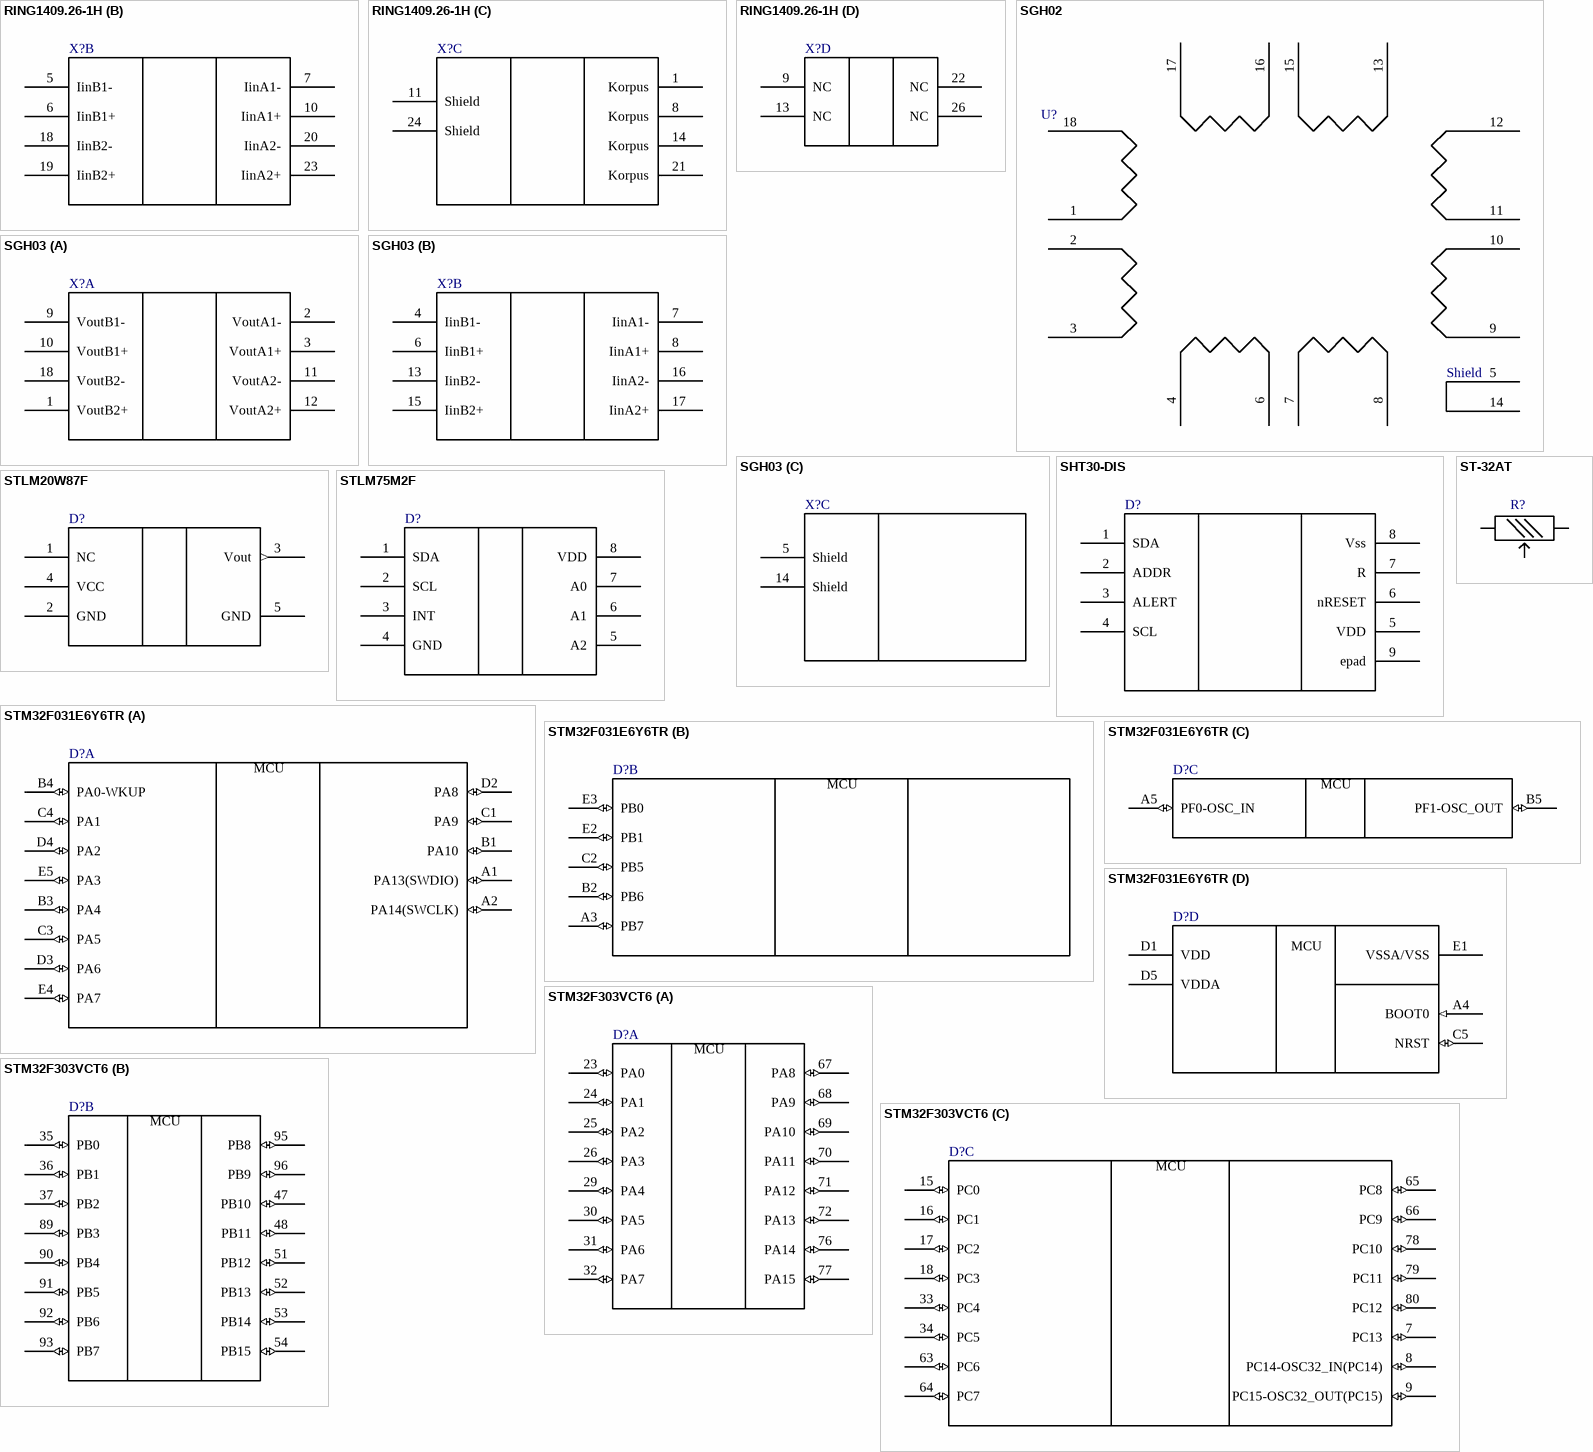
[diagram p10: symbols RING1409.26-1H to STM32F303VCT6]

## RING1409.26-1H
designator X?  (value not drawn)
Manufacturer: MIET; Value: RING1409.26-1H
footprint 1409.26-1H
part A pins: 2 VoutB2+, 3 VoutA1-, 4 VoutA1+, 12 VoutB1-, 15 VoutB1+, 16 VoutA2-, 17 VoutA2+, 25 VoutB2-
part B pins: 5 IinB1-, 6 IinB1+, 7 IinA1-, 10 IinA1+, 18 IinB2-, 19 IinB2+, 20 IinA2-, 23 IinA2+
part C pins: 1 Korpus, 8 Korpus, 11 Shield, 14 Korpus, 21 Korpus, 24 Shield
part D pins: 9 NC, 13 NC, 22 NC, 26 NC

## SGH02
designator U?  (value not drawn)
Manufacturer: SiliconSensing; Value: SGH02
pins: 1, 2, 3, 4, 5, 6, 7, 8, 9, 10, 11, 12, 13, 14, 15, 16, 17, 18
text: Shield

## SGH03
designator X?  (value not drawn)
Manufacturer: SiliconSensing; Value: SGH03
footprint SGH03
part A pins: 1 VoutB2+, 2 VoutA1-, 3 VoutA1+, 9 VoutB1-, 10 VoutB1+, 11 VoutA2-, 12 VoutA2+, 18 VoutB2-
part B pins: 4 IinB1-, 6 IinB1+, 7 IinA1-, 8 IinA1+, 13 IinB2-, 15 IinB2+, 16 IinA2-, 17 IinA2+
part C pins: 5 Shield, 14 Shield

## SHT30-DIS
designator D?, comment SHT30-DIS-B  (value not drawn)
Humidity and Temperature Sensor; Manufacturer: Sensirion; Value: SHT30-DIS-B
footprint SHT30-DIS (PSON, 8-Leads, Body 2.50x2.50mm, Pitch 0.50mm, Thermal Pad 1.80x1.10mm, IPC Medium Density)
pins: 1 SDA, 2 ADDR, 3 ALERT, 4 SCL, 5 VDD (power), 6 nRESET, 7 R, 8 Vss (power), 9 epad

## ST-32AT
designator R?, comment ST-32AT ?  (value not drawn)
Potentiometer ST-32AT; Value: ST-32AT ?; Manufacturer: *
footprint ST-32AT (ST32-AT potentiometer)
pins: 1, 2, 3

## STLM20W87F
designator D?  (value not drawn)
Value: STLM20W87F
footprint STLM20W87F (SOT23, 5-Leads, Body 2.00x2.10mm, Pitch 0.65mm, IPC High Density)
pins: 1 NC, 2 GND (power), 3 Vout (out), 4 VCC (power), 5 GND (power)

## STLM75M2F
designator D?  (value not drawn)
Value: STLM75M2F
footprint ST-SO8N (SOIC, 8-Leads, Body 4.90x3.90mm, Pitch 1.27mm, IPC High Density)
pins: 1 SDA, 2 SCL, 3 INT, 4 GND (power), 5 A2, 6 A1, 7 A0, 8 VDD (power)

## STM32F031E6Y6TR
designator D?  (value not drawn)
Manufacturer: STMicroelectronics; Value: STM32F031E6Y6TR
footprint STM32F031E6Y6TR (WLCSP25, 25-Leads, Body 2.42x2.32mmx0.58mm, Pitch 0.40mm)
part A pins: A1 PA13(SWDIO) (io), A2 PA14(SWCLK) (io), B1 PA10 (io), B3 PA4 (io), B4 PA0-WKUP (io), C1 PA9 (io), C3 PA5 (io), C4 PA1 (io), D2 PA8 (io), D3 PA6 (io), D4 PA2 (io), E4 PA7 (io), E5 PA3 (io)
part B pins: A3 PB7 (io), B2 PB6 (io), C2 PB5 (io), E2 PB1 (io), E3 PB0 (io)
part C pins: A5 PF0-OSC_IN (io), B5 PF1-OSC_OUT (io)
part D pins: A4 BOOT0 (in), C5 NRST (io), D1 VDD (power), D5 VDDA (power), E1 VSSA/VSS (power)
part A text: MCU
part B text: MCU
part C text: MCU
part D text: MCU

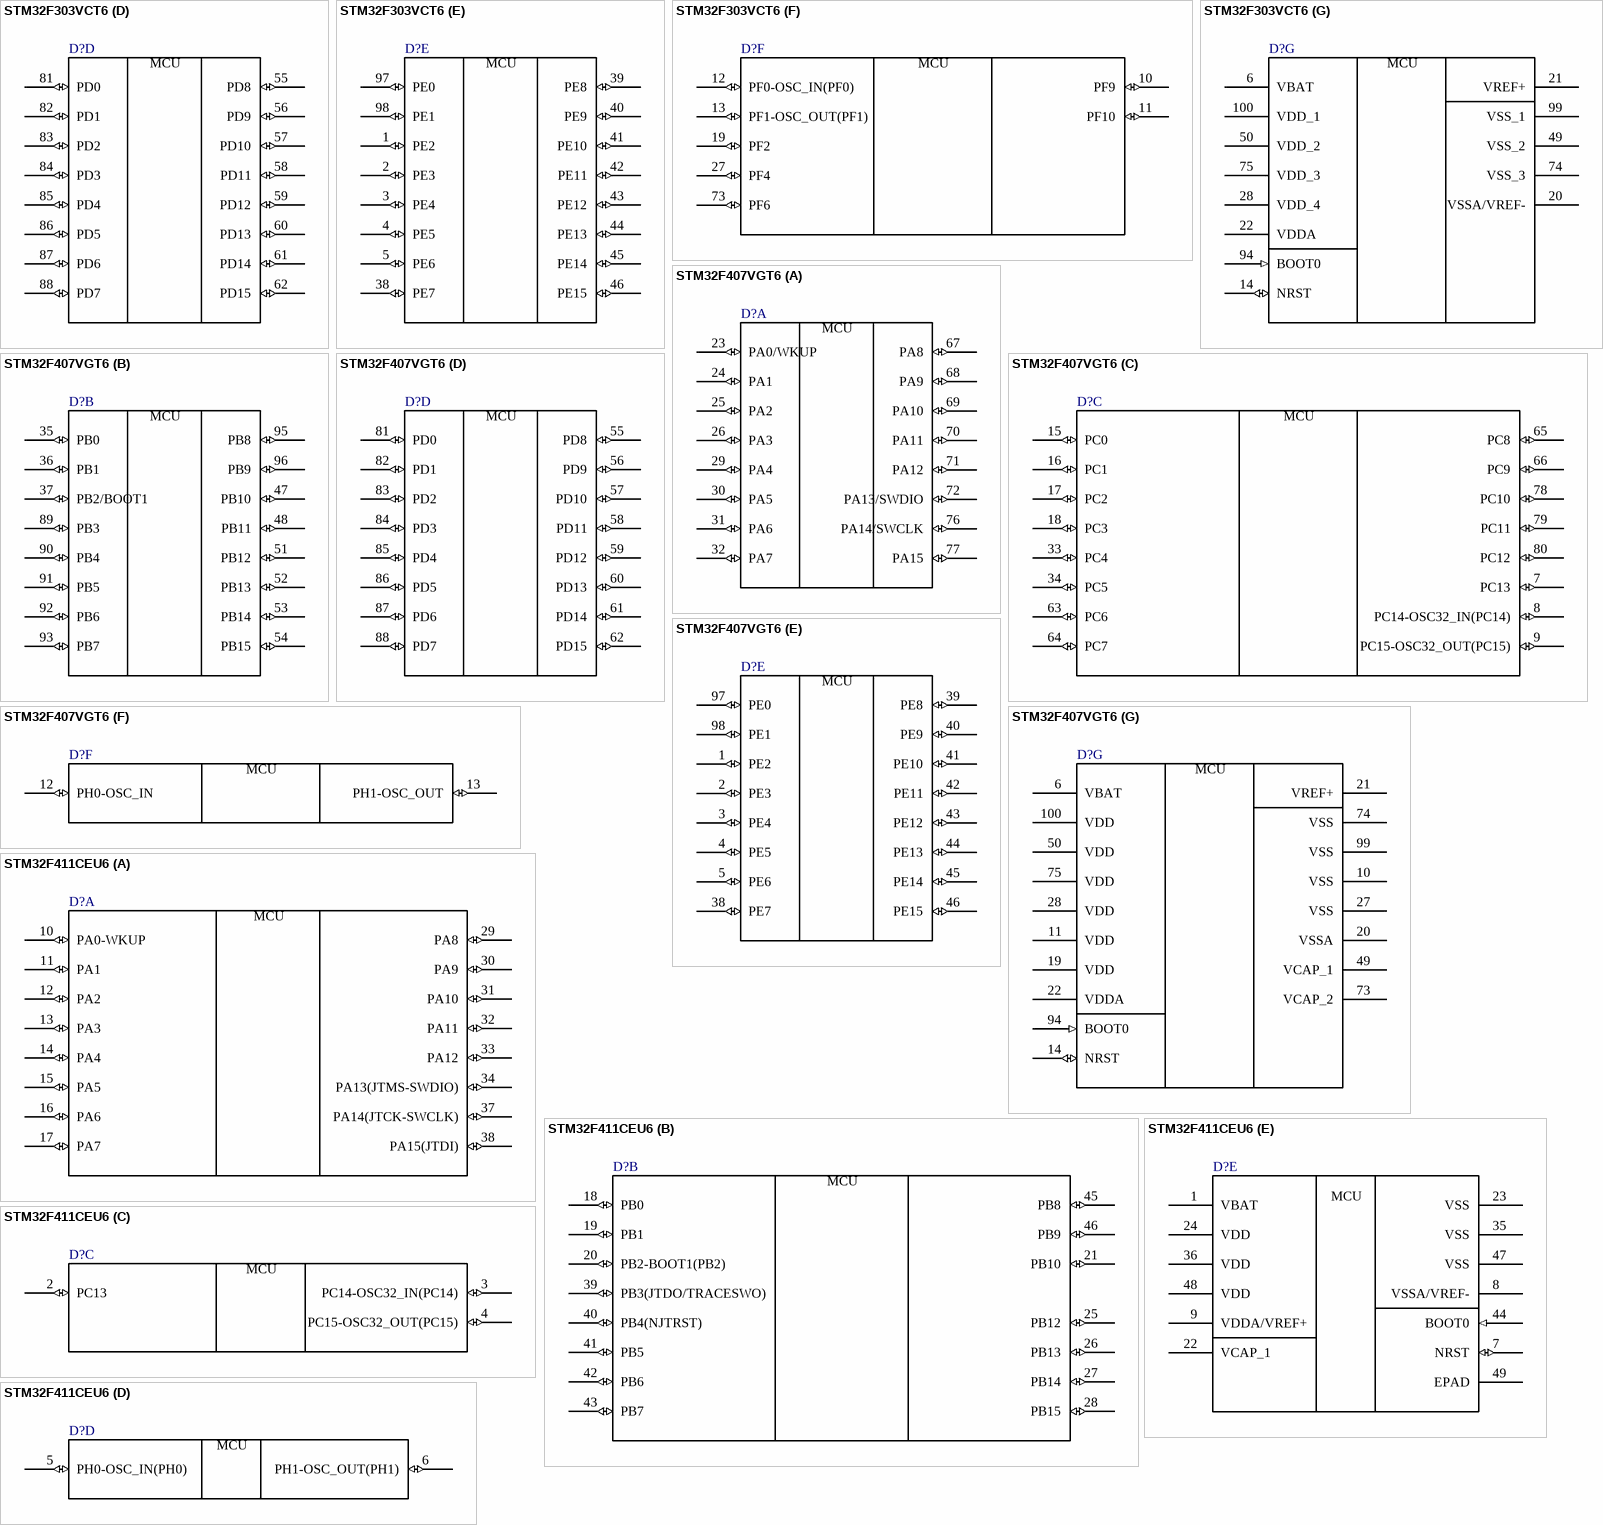
[diagram p11: symbols STM32F303VCT6 to STM32F411CEU6]

## STM32F303VCT6
designator D?  (value not drawn)
ARM Cortex-M4 32-bit MCU, 256 KB Flash, 40 KB Internal RAM, 87 I/Os, 100-pin LQFP, -40 to 85 degC, Tray; Manufacturer: STMicroelectronics; D/A Converter: 2x12-bit (2 Channel); FLASH Size (Prog) (kB): 256; I/Os (High Current): 87; Internal RAM Size (kB): 40; Operating Frequency(F) (Processor speed) (MHz): 72; Supply Voltage(Vcc) min (V): 2; DatasheetVersion: Rev. 6; PackageVersion: Rev. 1, 06/2013; PackageReference: LQFP100; PackageDescription: 100-Pin Low Profile Quad Flat Package, 14 x 14 mm Body, 0.5 mm Pitch; Supplier 1: Digi-Key; Supplier Part Number 1: 497-13233-ND; Supplier 2: Farnell; Supplier Part Number 2: 2215110; Supplier 3: Newark; Supplier Part Number 3: 43W6527; Supplier 4: Newark; Supplier Part Number 4: 46W2194; Supplier 5: Mouser; Supplier Part Number 5: 511-STM32F303VCT6; Core: ARM Cortex-M4; Packing: Tray; Mounting Technology: Surface Mount; PartNumber: STM32F303VCT6; ComponentLink1Description: Manufacturer URL; ComponentLink1URL: http://www.st.com/web/en/home.html; ComponentLink2Description: Datasheet; ComponentLink2URL: http://www.st.com/st-web-ui/static/active/en/resource/technical/document/datasheet/DM00058181.pdf; ComponentLink3Description: Package Specification; ComponentLink3URL: http://www.st.com/st-web-ui/static/active/en/resource/technical/document/data_brief/DM00071938.pdf; Value: STM32F303VCT6
footprint STM-LQFP100 (Thin QFP, 100-Leads, Body 14x14mm, Pitch 0.5mm, IPC High Density)
part A pins: 23 PA0 (io) "PA0/USART2_CTS,TIM2_CH1_ETR,TIM8_BKIN,TIM8_ETR,TSC_G1_IO1,COMP1_OUT,EVENTOUT/ADC1_IN1,COMP1_INM,RTC_TAMP2,WKUP1,COMP7_INP", 24 PA1 (io) "PA1/USART2_RTS,TIM2_CH2,TSC_G1_IO2,TIM15_CH1N,RTC_REFIN,EVENTOUT/ADC1_IN2,COMP1_INP,OPAMP1_VINP,OPAMP3_VINP", 25 PA2 (io) "PA2/USART2_TX,TIM2_CH3,TIM15_CH1,TSC_G1_IO3,COMP2_OUT,EVENTOUT/ADC1_IN3,COMP2_INM,OPAMP1_VOUT", 26 PA3 (io) "PA3/USART2_RX,TIM2_CH4,TIM15_CH2,TSC_G1_IO4,EVENTOUT/ADC1_IN4,OPAMP1_VINP,COMP2_INP,OPAMP1_VINM", 29 PA4 (io) "PA4/SPI1_NSS,SPI3_NSS,I2S3_WS,USART2_CK,TSC_G2_IO1,TIM3_CH2,EVENTOUT/ADC2_IN1,DAC1_OUT1,OPAMP4_VINP,COMP1_INM,COMP2_INM,COMP3_INM,COMP4_INM,COMP5_INM,COMP6_INM,COMP7_INM", 30 PA5 (io) "PA5/SPI1_SCK,TIM2_CH1_ETR,TSC_G2_IO2,EVENTOUT/ADC2_IN2,DAC1_OUT2,OPAMP1_VINP,OPAMP2_VINM,OPAMP3_VINP,COMP1_INM,COMP2_INM,COMP3_INM,COMP4_INM,COMP5_INM,COMP6_INM,COMP7_INM", 31 PA6 (io) "PA6/SPI1_MISO,TIM3_CH1,TIM8_BKIN,TIM1_BKIN,TIM16_CH1,COMP1_OUT,TSC_G2_IO3,EVENTOUT/ADC2_IN3,OPAMP2_VOUT", 32 PA7 (io) "PA7/SPI1_MOSI,TIM3_CH2,TIM17_CH1,TIM1_CH1N,TIM8_CH1N,TSC_G2_IO4,COMP2_OUT,EVENTOUT/ADC2_IN4,COMP2_INP,OPAMP2_VINP,OPAMP1_VINP", 67 PA8 (io) "PA8/I2C2_SMBA,I2S2_MCK,USART1_CK,TIM1_CH1,TIM4_ETR,MCO,COMP3_OUT,EVENTOUT", 68 PA9 (io) "PA9/I2C2_SCL,I2S3_MCK,USART1_TX,TIM1_CH2,TIM2_CH3,TIM15_BKIN,TSC_G4_IO1,COMP5_OUT,EVENTOUT", 69 PA10 (io) "PA10/I2C2_SDA,USART1_RX,TIM1_CH3,TIM2_CH4,TIM8_BKIN,TIM17_BKIN,TSC_G4_IO2,COMP6_OUT,EVENTOUT", 70 PA11 (io) "PA11/USART1_CTS,USB_DM,CAN_RX,TIM1_CH1N,TIM1_CH4,TIM1_BKIN2,TIM4_CH1,COMP1_OUT,EVENTOUT", 71 PA12 (io) "PA12/USART1_RTS,USB_DP,CAN_TX,TIM1_CH2N,TIM1_ETR,TIM4_CH2,TIM16_CH1,COMP2_OUT,EVENTOUT", 72 PA13 (io) "PA13/USART3_CTS,TIM4_CH3,TIM16_CH1N,TSC_G4_IO3,IR_OUT,SWDIO-JTMS,EVENTOUT", 76 PA14 (io) "PA14/I2C1_SDA,USART2_TX,TIM8_CH2,TIM1_BKIN,TSC_G4_IO4,SWCLK-JTCK,EVENTOUT", 77 PA15 (io) "PA15/I2C1_SCL,SPI1_NSS,SPI3_NSS,I2S3_WS,JTDI,USART2_RX,TIM1_BKIN,TIM2_CH1_ETR,TIM8_CH1,EVENTOUT"
part B pins: 35 PB0 (io) "PB0/TIM3_CH3,TIM1_CH2N,TIM8_CH2N,TSC_G3_IO2,EVENTOUT/ADC3_IN12,COMP4_INP,OPAMP3_VINP,OPAMP2_VINP", 36 PB1 (io) "PB1/TIM3_CH4,TIM1_CH3N,TIM8_CH3N,COMP4_OUT,TSC_G3_IO3,EVENTOUT/ADC3_IN1,OPAMP3_VOUT", 37 PB2 (io) "PB2/TSC_G3_IO4,EVENTOUT/ADC2_IN12,COMP4_INM,OPAMP3_VINM", 47 PB10 (io) "PB10/USART3_TX,TIM2_CH3,TSC_SYNC,EVENTOUT/COMP5_INM,OPAMP4_VINM,OPAMP3_VINM", 48 PB11 (io) "PB11/USART3_RX,TIM2_CH4,TSC_G6_IO1,EVENTOUT/COMP6_INP,OPAMP4_VINP", 51 PB12 (io) "PB12/SPI2_NSS,I2S2_WS,I2C2_SMBA,USART3_CK,TIM1_BKIN,TSC_G6_IO2,EVENTOUT/ADC4_IN3,COMP3_INM,OPAMP4_VOUT", 52 PB13 (io) "PB13/SPI2_SCK,I2S2_CK,USART3_CTS,TIM1_CH1N,TSC_G6_IO3,EVENTOUT/ADC3_IN5,COMP5_INP,OPAMP4_VINP,OPAMP3_VINP", 53 PB14 (io) "PB14/SPI2_MISO,I2S2ext_SD,USART3_RTS,TIM1_CH2N,TIM15_CH1,TSC_G6_IO4,EVENTOUT/COMP3_INP,ADC4_IN4,OPAMP2_VINP", 54 PB15 (io) "PB15/SPI2_MOSI,I2S2_SD,TIM1_CH3N,RTC_REFIN,TIM15_CH1N,TIM15_CH2,EVENTOUT/ADC4_IN5,COMP6_INM", 89 PB3 (io) "PB3/SPI3_SCK,I2S3_CK,SPI1_SCK,USART2_TX,TIM2_CH2,TIM3_ETR,TIM4_ETR,TIM8_CH1N,TSC_G5_IO1,JTDO-TRACESWO,EVENTOUT", 90 PB4 (io) "PB4/SPI3_MISO,I2S3ext_SD,SPI1_MISO,USART2_RX,TIM3_CH1,TIM16_CH1,TIM17_BKIN,TIM8_CH2N,TSC_G5_IO2,NJTRST,EVENTOUT", 91 PB5 (io) "PB5/SPI3_MOSI,SPI1_MOSI,I2S3_SD,I2C1_SMBA,USART2_CK,TIM16_BKIN,TIM3_CH2,TIM8_CH3N,TIM17_CH1,EVENTOUT", 92 PB6 (io) "PB6/I2C1_SCL,USART1_TX,TIM16_CH1N,TIM4_CH1,TIM8_CH1,TSC_G5_IO3,TIM8_ETR,TIM8_BKIN2,EVENTOUT", 93 PB7 (io) "PB7/I2C1_SDA,USART1_RX,TIM3_CH4,TIM4_CH2,TIM17_CH1N,TIM8_BKIN,TSC_G5_IO4,EVENTOUT", 95 PB8 (io) "PB8/I2C1_SCL,CAN_RX,TIM16_CH1,TIM4_CH3,TIM8_CH2,TIM1_BKIN,TSC_SYNC,COMP1_OUT,EVENTOUT", 96 PB9 (io) "PB9/I2C1_SDA,CAN_TX,TIM17_CH1,TIM4_CH4,TIM8_CH3,IR_OUT,COMP2_OUT,EVENTOUT"
part C pins: 7 PC13 (io) "PC13/TIM1_CH1N/WKUP2,RTC_TAMP1,RTC_TS,RTC_OUT", 8 PC14-OSC32_IN(PC14) (io) "PC14-OSC32_IN(PC14)/OSC32_IN", 9 PC15-OSC32_OUT(PC15) (io) "PC15-OSC32_OUT(PC15)/OSC32_OUT", 15 PC0 (io) "PC0/EVENTOUT/ADC12_IN6,COMP7_INM", 16 PC1 (io) "PC1/EVENTOUT/ADC12_IN7,COMP7_INP", 17 PC2 (io) "PC2/COMP7_OUT,EVENTOUT/ADC12_IN8", 18 PC3 (io) "PC3/TIM1_BKIN2,EVENTOUT/ADC12_IN9", 33 PC4 (io) "PC4/USART1_TX,EVENTOUT/ADC2_IN5", 34 PC5 (io) "PC5/USART1_RX,TSC_G3_IO1,EVENTOUT/ADC2_IN11,OPAMP2_VINM,OPAMP1_VINM", 63 PC6 (io) "PC6/I2S2_MCK,COMP6_OUT,TIM8_CH1,TIM3_CH1,EVENTOUT", 64 PC7 (io) "PC7/I2S3_MCK,TIM8_CH2,TIM3_CH2,COMP5_OUT,EVENTOUT", 65 PC8 (io) "PC8/TIM8_CH3,TIM3_CH3,COMP3_OUT,EVENTOUT", 66 PC9 (io) "PC9/TIM8_CH4,TIM8_BKIN2,TIM3_CH4,I2S_CKIN,EVENTOUT", 78 PC10 (io) "PC10/SPI3_SCK,I2S3_CK,USART3_TX,UART4_TX,TIM8_CH1N,EVENTOUT", 79 PC11 (io) "PC11/SPI3_MISO,I2S3ext_SD,USART3_RX,UART4_RX,TIM8_CH2N,EVENTOUT", 80 PC12 (io) "PC12/SPI3_MOSI,I2S3_SD,USART3_CK,UART5_TX,TIM8_CH3N,EVENTOUT"
part D pins: 55 PD8 (io) "PD8/USART3_TX,EVENTOUT/ADC4_IN12,OPAMP4_VINM", 56 PD9 (io) "PD9/USART3_RX,EVENTOUT/ADC4_IN13", 57 PD10 (io) "PD10/USART3_CK,EVENTOUT/ADC34_IN7,COMP6_INM", 58 PD11 (io) "PD11/USART3_CTS,EVENTOUT/ADC34_IN8,COMP6_INP,OPAMP4_VINP", 59 PD12 (io) "PD12/USART3_RTS,TIM4_CH1,TSC_G8_IO1,EVENTOUT/ADC34_IN9,COMP5_INP", 60 PD13 (io) "PD13/TIM4_CH2,TSC_G8_IO2,EVENTOUT/ADC34_IN10,COMP5_INM", 61 PD14 (io) "PD14/TIM4_CH3,TSC_G8_IO3,EVENTOUT/COMP3_INP,ADC34_IN11,OPAMP2_VINP", 62 PD15 (io) "PD15/SPI2_NSS,TIM4_CH4,TSC_G8_IO4,EVENTOUT/COMP3_INM", 81 PD0 (io) "PD0/CAN_RX,EVENTOUT", 82 PD1 (io) "PD1/CAN_TX,TIM8_CH4,TIM8_BKIN2,EVENTOUT", 83 PD2 (io) "PD2/UART5_RX,TIM3_ETR,TIM8_BKIN,EVENTOUT", 84 PD3 (io) "PD3/USART2_CTS,TIM2_CH1_ETR,EVENTOUT", 85 PD4 (io) "PD4/USART2_RTS,TIM2_CH2,EVENTOUT", 86 PD5 (io) "PD5/USART2_TX,EVENTOUT", 87 PD6 (io) "PD6/USART2_RX,TIM2_CH4,EVENTOUT", 88 PD7 (io) "PD7/USART2_CK,TIM2_CH3,EVENTOUT"
part E pins: 1 PE2 (io) "PE2/TRACECK,TIM3_CH1,TSC_G7_IO1,EVENTOUT", 2 PE3 (io) "PE3/TRACED0,TIM3_CH2,TSC_G7_IO2,EVENTOUT", 3 PE4 (io) "PE4/TRACED1,TIM3_CH3,TSC_G7_IO3,EVENTOUT", 4 PE5 (io) "PE5/TRACED2,TIM3_CH4,TSC_G7_IO4,EVENTOUT", 5 PE6 (io) "PE6/TRACED3,EVENTOUT/WKUP3,RTC_TAMP3", 38 PE7 (io) "PE7/TIM1_ETR,EVENTOUT/ADC3_IN13,COMP4_INP", 39 PE8 (io) "PE8/TIM1_CH1N,EVENTOUT/COMP4_INM,ADC34_IN6", 40 PE9 (io) "PE9/TIM1_CH1,EVENTOUT/ADC3_IN2", 41 PE10 (io) "PE10/TIM1_CH2N,EVENTOUT/ADC3_IN14", 42 PE11 (io) "PE11/TIM1_CH2,EVENTOUT/ADC3_IN15", 43 PE12 (io) "PE12/TIM1_CH3N,EVENTOUT/ADC3_IN16", 44 PE13 (io) "PE13/TIM1_CH3,EVENTOUT/ADC3_IN3", 45 PE14 (io) "PE14/TIM1_CH4,TIM1_BKIN2,EVENTOUT/ADC4_IN1", 46 PE15 (io) "PE15/USART3_RX,TIM1_BKIN,EVENTOUT/ADC4_IN2", 97 PE0 (io) "PE0/USART1_TX,TIM4_ETR,TIM16_CH1,EVENTOUT", 98 PE1 (io) "PE1/USART1_RX,TIM17_CH1,EVENTOUT"
part F pins: 10 PF9 (io) "PF9/TIM15_CH1,SPI2_SCK,EVENTOUT", 11 PF10 (io) "PF10/TIM15_CH2,SPI2_SCK,EVENTOUT", 12 PF0-OSC_IN(PF0) (io) "PF0-OSC_IN(PF0)/TIM1_CH3N,I2C2_SDA/OSC_IN", 13 PF1-OSC_OUT(PF1) (io) "PF1-OSC_OUT(PF1)/I2C2_SCL/OSC_OUT", 19 PF2 (io) "PF2/EVENTOUT/ADC12_IN10", 27 PF4 (io) "PF4/COMP1_OUT,EVENTOUT/ADC1_IN5", 73 PF6 (io) "PF6/I2C2_SCL,USART3_RTS,TIM4_CH4,EVENTOUT"
part G pins: 6 VBAT (power) "Backup power supply", 14 NRST (io) "Device reset input / internal reset output (active low)", 20 VSSA/VREF- (power) "Analog ground/Negative reference voltage", 21 VREF+ (power) "Positive reference voltage", 22 VDDA (power) "Analog power supply", 28 VDD_4 (power) "Digital power supply", 49 VSS_2 (power) "Digital ground", 50 VDD_2 (power) "Digital power supply", 74 VSS_3 (power) "Ground", 75 VDD_3 (power) "Digital power supply", 94 BOOT0 (in) "Boot memory selection", 99 VSS_1 (power) "Ground", 100 VDD_1 (power) "Digital power supply"
part A text: MCU
part B text: MCU
part C text: MCU
part D text: MCU
part E text: MCU
part F text: MCU
part G text: MCU

## STM32F407VGT6
designator D?  (value not drawn)
ARM Cortex-M4 32b MCU+FPU,   210DMIPS, up to 1MB Flash/192+4KB RAM, USB   OTG HS/FS, Ethernet, 17 TIMs, 3 A  DCs, 15 comm. interfaces & camera; Manufacturer: STMicroelectronics; Value: STM32F407VGT6
footprint STM-LQFP100 (Thin QFP, 100-Leads, Body 14x14mm, Pitch 0.5mm, IPC High Density)
part A pins: 23 PA0/WKUP (io), 24 PA1 (io), 25 PA2 (io), 26 PA3 (io), 29 PA4 (io), 30 PA5 (io), 31 PA6 (io), 32 PA7 (io), 67 PA8 (io), 68 PA9 (io), 69 PA10 (io), 70 PA11 (io), 71 PA12 (io), 72 PA13/SWDIO (io), 76 PA14/SWCLK (io), 77 PA15 (io)
part B pins: 35 PB0 (io), 36 PB1 (io), 37 PB2/BOOT1 (io), 47 PB10 (io), 48 PB11 (io), 51 PB12 (io), 52 PB13 (io), 53 PB14 (io), 54 PB15 (io), 89 PB3 (io), 90 PB4 (io), 91 PB5 (io), 92 PB6 (io), 93 PB7 (io), 95 PB8 (io), 96 PB9 (io)
part C pins: 7 PC13 (io), 8 PC14-OSC32_IN(PC14) (io), 9 PC15-OSC32_OUT(PC15) (io), 15 PC0 (io), 16 PC1 (io), 17 PC2 (io), 18 PC3 (io), 33 PC4 (io), 34 PC5 (io), 63 PC6 (io), 64 PC7 (io), 65 PC8 (io), 66 PC9 (io), 78 PC10 (io), 79 PC11 (io), 80 PC12 (io)
part D pins: 55 PD8 (io), 56 PD9 (io), 57 PD10 (io), 58 PD11 (io), 59 PD12 (io), 60 PD13 (io), 61 PD14 (io), 62 PD15 (io), 81 PD0 (io), 82 PD1 (io), 83 PD2 (io), 84 PD3 (io), 85 PD4 (io), 86 PD5 (io), 87 PD6 (io), 88 PD7 (io)
part E pins: 1 PE2 (io), 2 PE3 (io), 3 PE4 (io), 4 PE5 (io), 5 PE6 (io), 38 PE7 (io), 39 PE8 (io), 40 PE9 (io), 41 PE10 (io), 42 PE11 (io), 43 PE12 (io), 44 PE13 (io), 45 PE14 (io), 46 PE15 (io), 97 PE0 (io), 98 PE1 (io)
part F pins: 12 PH0-OSC_IN (io), 13 PH1-OSC_OUT (io)
part G pins: 6 VBAT (power), 10 VSS (power), 11 VDD (power), 14 NRST (io), 19 VDD (power), 20 VSSA (power), 21 VREF+ (power), 22 VDDA (power), 27 VSS (power), 28 VDD (power), 49 VCAP_1, 50 VDD (power), 73 VCAP_2, 74 VSS (power), 75 VDD (power), 94 BOOT0 (in), 99 VSS (power), 100 VDD (power)
part A text: MCU
part B text: MCU
part C text: MCU
part D text: MCU
part E text: MCU
part F text: MCU
part G text: MCU

## STM32F411CEU6
designator D?  (value not drawn)
ARM® Cortex®-M4 32b MCU+FPU, 125 DMIPS, 512KB Flash,  128KB RAM, USB OTG FS, 11 TIMs, 1 ADC, 13 comm. interfaces; Manufacturer: STMicroelectronics; Value: STM32F411CEU6
footprint STM32F411CEU6 (QFN, 48-Leads, Body 7.00x7.00mm, Pitch 0.50mm, Thermal Pad 5.40x5.40mm, IPC High Density)
part A pins: 10 PA0-WKUP (io), 11 PA1 (io), 12 PA2 (io), 13 PA3 (io), 14 PA4 (io), 15 PA5 (io), 16 PA6 (io), 17 PA7 (io), 29 PA8 (io), 30 PA9 (io), 31 PA10 (io), 32 PA11 (io), 33 PA12 (io), 34 PA13(JTMS-SWDIO) (io), 37 PA14(JTCK-SWCLK) (io), 38 PA15(JTDI) (io)
part B pins: 18 PB0 (io), 19 PB1 (io), 20 PB2-BOOT1(PB2) (io), 21 PB10 (io), 25 PB12 (io), 26 PB13 (io), 27 PB14 (io), 28 PB15 (io), 39 PB3(JTDO/TRACESWO) (io), 40 PB4(NJTRST) (io), 41 PB5 (io), 42 PB6 (io), 43 PB7 (io), 45 PB8 (io), 46 PB9 (io)
part C pins: 2 PC13 (io), 3 PC14-OSC32_IN(PC14) (io), 4 PC15-OSC32_OUT(PC15) (io)
part D pins: 5 PH0-OSC_IN(PH0) (io), 6 PH1-OSC_OUT(PH1) (io)
part E pins: 1 VBAT (power), 7 NRST (io), 8 VSSA/VREF- (power), 9 VDDA/VREF+ (power), 22 VCAP_1 (power), 23 VSS (power), 24 VDD (power), 35 VSS (power), 36 VDD (power), 44 BOOT0 (in), 47 VSS (power), 48 VDD (power), 49 EPAD
part A text: MCU
part B text: MCU
part C text: MCU
part D text: MCU
part E text: MCU

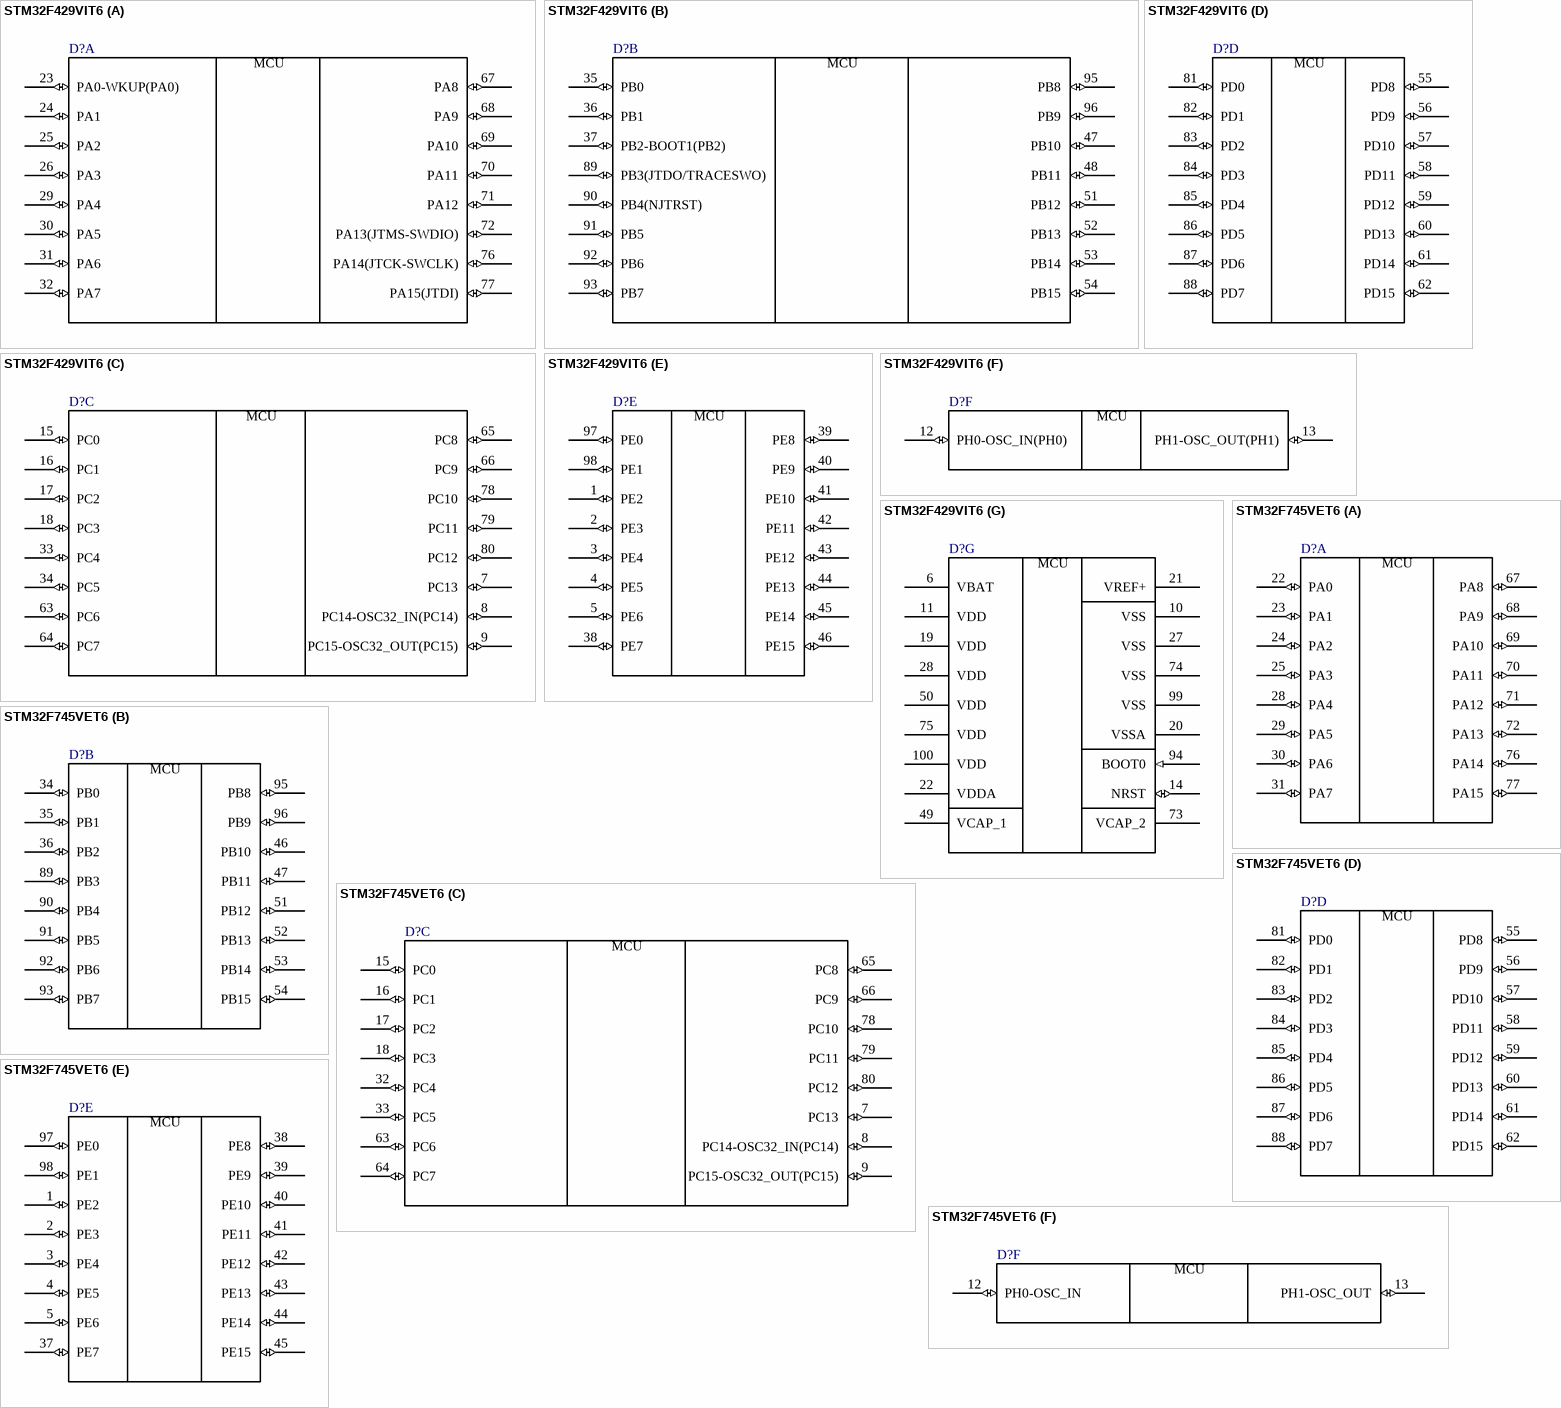
[diagram p12: symbols STM32F429VIT6 to STM32F745VET6]

## STM32F429VIT6
designator D?  (value not drawn)
ARM Cortex-M4 32-bit MCU+FPU, 225 DMIPS, 2048 kB Flash, 256 kB Internal RAM, 82 I/Os, 100-pin LQFP, -40 to 85 degC, Tray; Manufacturer: STMicroelectronics; D/A Converter: 2x12-bit; FLASH Size (Prog) (kB): 2048; I/Os (High Current): 82; Internal RAM Size (kB): 256; Operating Frequency(F) (Processor speed) (MHz): 180; Supply Voltage(Vcc) max (V): 3.6; Supply Voltage(Vcc) min (V): 1.8; DatasheetVersion: Rev. 2; PackageVersion: Rev. 1, 06/2013; PackageReference: LQFP100; PackageDescription: 100-Pin Low Profile Quad Flat Package, 14 x 14 mm Body, 0.5 mm Pitch; Supplier 1: Digi-Key; Supplier Part Number 1: 497-14052-ND; Supplier 2: Newark; Supplier Part Number 2: 06X3674; Supplier 3: Mouser; Supplier Part Number 3: 511-STM32F429VIT6; Core: ARM Cortex-M4; Packing: Tray; Mounting Technology: Surface Mount; PartNumber: STM32F429VIT6; ComponentLink1Description: Manufacturer URL; ComponentLink1URL: http://www.st.com/web/en/home.html; ComponentLink2Description: Datasheet; ComponentLink2URL: http://www.st.com/st-web-ui/static/active/en/resource/technical/document/data_brief/DM00053488.pdf; ComponentLink3Description: Package Specification; ComponentLink3URL: http://www.st.com/st-web-ui/static/active/en/resource/technical/document/data_brief/DM00071938.pdf; Value: STM32F429VIT6
footprint STM-LQFP100 (Thin QFP, 100-Leads, Body 14x14mm, Pitch 0.5mm, IPC High Density)
part A pins: 23 PA0-WKUP(PA0) (io) "PA0-WKUP(PA0)/TIM2_CH1/TIM2_ETR,TIM5_CH1,TIM8_ETR,USART2_CTS,UART4_TX,ETH_MII_CRS,EVENTOUT/ADC123_IN0/WKUP", 24 PA1 (io) "PA1/TIM2_CH2,TIM5_CH2,USART2_RTS,UART4_RX,ETH_MII_RX_CLK/ETH_RMII_REF_CLK,EVENTOUT/ADC123_IN1", 25 PA2 (io) "PA2/TIM2_CH3,TIM5_CH3,TIM9_CH1,USART2_TX,ETH_MDIO,EVENTOUT/ADC123_IN2", 26 PA3 (io) "PA3/TIM2_CH4,TIM5_CH4,TIM9_CH2,USART2_RX,OTG_HS_ULPI_D0,ETH_MII_COL,LCD_B5,EVENTOUT/ADC123_IN3", 29 PA4 (io) "PA4/SPI1_NSS,SPI3_NSS/I2S3_WS,USART2_CK,OTG_HS_SOF,DCMI_HSYNC,LCD_VSYNC,EVENTOUT/ADC12_IN4/DAC_OUT1", 30 PA5 (io) "PA5/TIM2_CH1/TIM2_ETR,TIM8_CH1N,SPI1_SCK,OTG_HS_ULPI_CK,EVENTOUT/ADC12_IN5/DAC_OUT2", 31 PA6 (io) "PA6/TIM1_BKIN,TIM3_CH1,TIM8_BKIN,SPI1_MISO,TIM13_CH1,DCMI_PIXCLK,LCD_G2,EVENTOUT/ADC12_IN6", 32 PA7 (io) "PA7/TIM1_CH1N,TIM3_CH2,TIM8_CH1N,SPI1_MOSI,TIM14_CH1,ETH_MII_RX_DV/ETH_RMII_CRS_DV,EVENTOUT/ADC12_IN7", 67 PA8 (io) "PA8/MCO1,TIM1_CH1,I2C3_SCL,USART1_CK,OTG_FS_SOF,LCD_R6,EVENTOUT", 68 PA9 (io) "PA9/TIM1_CH2,I2C3_SMBA,USART1_TX,DCMI_D0,EVENTOUT/OTG_FS_VBUS", 69 PA10 (io) "PA10/TIM1_CH3,USART1_RX,OTG_FS_ID,DCMI_D1,EVENTOUT", 70 PA11 (io) "PA11/TIM1_CH4,USART1_CTS,CAN1_RX,LCD_R4,EVENTOUT/OTG_FS_DM", 71 PA12 (io) "PA12/TIM1_ETR,USART1_RTS,CAN1_TX,LCD_R5,EVENTOUT/OTG_FS_DP", 72 PA13(JTMS-SWDIO) (io) "PA13(JTMS-SWDIO)/JTMS-SWDIO,EVENTOUT", 76 PA14(JTCK-SWCLK) (io) "PA14(JTCK-SWCLK)/JTCK-SWCLK/EVENTOUT", 77 PA15(JTDI) (io) "PA15(JTDI)/JTDI,TIM2_CH1/TIM2_ETR,SPI1_NSS,SPI3_NSS/I2S3_WS,EVENTOUT"
part B pins: 35 PB0 (io) "PB0/TIM1_CH2N,TIM3_CH3,TIM8_CH2N,LCD_R3,OTG_HS_ULPI_D1,ETH_MII_RXD2,EVENTOUT/ADC12_IN8", 36 PB1 (io) "PB1/TIM1_CH3N,TIM3_CH4,TIM8_CH3N,LCD_R6,OTG_HS_ULPI_D2,ETH_MII_RXD3,EVENTOUT/ADC12_IN9", 37 PB2-BOOT1(PB2) (io) "PB2-BOOT1(PB2)/EVENTOUT", 47 PB10 (io) "PB10/TIM2_CH3,I2C2_SCL,SPI2_SCK/I2S2_CK,USART3_TX,OTG_HS_ULPI_D3,ETH_MII_RX_ER,LCD_G4,EVENTOUT", 48 PB11 (io) "PB11/TIM2_CH4,I2C2_SDA,USART3_RX,OTG_HS_ULPI_D4,ETH_MII_TX_EN/ETH_RMII_TX_EN,LCD_G5,EVENTOUT", 51 PB12 (io) "PB12/TIM1_BKIN,I2C2_SMBA,SPI2_NSS/I2S2_WS,USART3_CK,CAN2_RX,OTG_HS_ULPI_D5,ETH_MII_TXD0/ETH_RMII_TXD0,OTG_HS_ID,EVENTOUT", 52 PB13 (io) "PB13/TIM1_CH1N,SPI2_SCK/I2S2_CK,USART3_CTS,CAN2_TX,OTG_HS_ULPI_D6,ETH_MII_TXD1/ETH_RMII_TXD1,EVENTOUT/OTG_HS_VBUS", 53 PB14 (io) "PB14/TIM1_CH2N,TIM8_CH2N,SPI2_MISO,I2S2ext_SD,USART3_RTS,TIM12_CH1,EVENTOUT/OTG_HS_DM", 54 PB15 (io) "PB15/RTC_REFIN,TIM1_CH3N,TIM8_CH3N,SPI2_MOSI/I2S2_SD,TIM12_CH2,EVENTOUT/OTG_HS_DP", 89 PB3(JTDO/TRACESWO) (io) "PB3(JTDO/TRACESWO)/JTDO/TRACESWO,TIM2_CH2,SPI1_SCK,SPI3_SCK/I2S3_CK,EVENTOUT", 90 PB4(NJTRST) (io) "PB4(NJTRST)/NJTRST,TIM3_CH1,SPI1_MISO,SPI3_MISO,I2S3ext_SD,EVENTOUT", 91 PB5 (io) "PB5/TIM3_CH2,I2C1_SMBA,SPI1_MOSI,SPI3_MOSI/I2S3_SD,CAN2_RX,OTG_HS_ULPI_D7,ETH_PPS_OUT,FMC_SDCKE1,DCMI_D10,EVENTOUT", 92 PB6 (io) "PB6/TIM4_CH1,I2C1_SCL,USART1_TX,CAN2_TX,FMC_SDNE1,DCMI_D5,EVENTOUT", 93 PB7 (io) "PB7/TIM4_CH2,I2C1_SDA,USART1_RX,FMC_NL,DCMI_VSYNC,EVENTOUT", 95 PB8 (io) "PB8/TIM4_CH3,TIM10_CH1,I2C1_SCL,CAN1_RX,ETH_MII_TXD3,SDIO_D4,DCMI_D6,LCD_B6,EVENTOUT", 96 PB9 (io) "PB9/TIM4_CH4,TIM11_CH1,I2C1_SDA,SPI2_NSS/I2S2_WS,CAN1_TX,SDIO_D5,DCMI_D7,LCD_B7,EVENTOUT"
part C pins: 7 PC13 (io) "PC13/EVENTOUT/TAMP_1", 8 PC14-OSC32_IN(PC14) (io) "PC14-OSC32_IN(PC14)/EVENTOUT/OSC32_IN", 9 PC15-OSC32_OUT(PC15) (io) "PC15-OSC32_OUT(PC15)/EVENTOUT/OSC32_OUT", 15 PC0 (io) "PC0/OTG_HS_ULPI_STP,FMC_SDNWE,EVENTOUT/ADC123_IN10", 16 PC1 (io) "PC1/ETH_MDC,EVENTOUT/ADC123_IN11", 17 PC2 (io) "PC2/SPI2_MISO,I2S2ext_SD,OTG_HS_ULPI_DIR,ETH_MII_TXD2,FMC_SDNE0,EVENTOUT/ADC123_IN12", 18 PC3 (io) "PC3/SPI2_MOSI/I2S2_SD,OTG_HS_ULPI_NXT,ETH_MII_TX_CLK,FMC_SDCKE0,EVENTOUT/ADC123_IN13", 33 PC4 (io) "PC4/ETH_MII_RXD0/ETH_RMII_RXD0,EVENTOUT/ADC12_IN14", 34 PC5 (io) "PC5/ETH_MII_RXD1/ETH_RMII_RXD1,EVENTOUT/ADC12_IN15", 63 PC6 (io) "PC6/TIM3_CH1,TIM8_CH1,I2S2_MCK,USART6_TX,SDIO_D6,DCMI_D0,LCD_HSYNC,EVENTOUT", 64 PC7 (io) "PC7/TIM3_CH2,TIM8_CH2,I2S3_MCK,USART6_RX,SDIO_D7,DCMI_D1,LCD_G6,EVENTOUT", 65 PC8 (io) "PC8/TIM3_CH3,TIM8_CH3,USART6_CK,SDIO_D0,DCMI_D2,EVENTOUT", 66 PC9 (io) "PC9/MCO2,TIM3_CH4,TIM8_CH4,I2C3_SDA,I2S_CKIN,SDIO_D1,DCMI_D3,EVENTOUT", 78 PC10 (io) "PC10/SPI3_SCK/I2S3_CK,USART3_TX,UART4_TX,SDIO_D2,DCMI_D8,LCD_R2,EVENTOUT", 79 PC11 (io) "PC11/I2S3ext_SD,SPI3_MISO,USART3_RX,UART4_RX,SDIO_D3,DCMI_D4,EVENTOUT", 80 PC12 (io) "PC12/SPI3_MOSI/I2S3_SD,USART3_CK,UART5_TX,SDIO_CK,DCMI_D9,EVENTOUT"
part D pins: 55 PD8 (io) "PD8/USART3_TX,FMC_D13,EVENTOUT", 56 PD9 (io) "PD9/USART3_RX,FMC_D14,EVENTOUT", 57 PD10 (io) "PD10/USART3_CK,FMC_D15,LCD_B3,EVENTOUT", 58 PD11 (io) "PD11/USART3_CTS,FMC_A16,EVENTOUT", 59 PD12 (io) "PD12/TIM4_CH1,USART3_RTS,FMC_A17,EVENTOUT", 60 PD13 (io) "PD13/TIM4_CH2,FMC_A18,EVENTOUT", 61 PD14 (io) "PD14/TIM4_CH3,FMC_D0,EVENTOUT", 62 PD15 (io) "PD15/TIM4_CH4,FMC_D1,EVENTOUT", 81 PD0 (io) "PD0/CAN1_RX,FMC_D2,EVENTOUT", 82 PD1 (io) "PD1/CAN1_TX,FMC_D3,EVENTOUT", 83 PD2 (io) "PD2/TIM3_ETR,UART5_RX,SDIO_CMD,DCMI_D11,EVENTOUT", 84 PD3 (io) "PD3/SPI2_SCK/I2S2_CK,USART2_CTS,FMC_CLK,DCMI_D5,LCD_G7,EVENTOUT", 85 PD4 (io) "PD4/USART2_RTS,FMC_NOE,EVENTOUT", 86 PD5 (io) "PD5/USART2_TX,FMC_NWE,EVENTOUT", 87 PD6 (io) "PD6/SPI3_MOSI/I2S3_SD,SAI1_SD_A,USART2_RX,FMC_NWAIT,DCMI_D10,LCD_B2,EVENTOUT", 88 PD7 (io) "PD7/USART2_CK,FMC_NE1/FMC_NCE2,EVENTOUT"
part E pins: 1 PE2 (io) "PE2/TRACECLK,SPI4_SCK,SAI1_MCLK_A,ETH_MII_TXD3,FMC_A23,EVENTOUT", 2 PE3 (io) "PE3/TRACED0,SAI1_SD_B,FMC_A19,EVENTOUT", 3 PE4 (io) "PE4/TRACED1,SPI4_NSS,SAI1_FS_A,FMC_A20,DCMI_D4,LCD_B0,EVENTOUT", 4 PE5 (io) "PE5/TRACED2,TIM9_CH1,SPI4_MISO,SAI1_SCK_A,FMC_A21,DCMI_D6,LCD_G0,EVENTOUT", 5 PE6 (io) "PE6/TRACED3,TIM9_CH2,SPI4_MOSI,SAI1_SD_A,FMC_A22,DCMI_D7,LCD_G1,EVENTOUT", 38 PE7 (io) "PE7/TIM1_ETR,UART7_RX,FMC_D4,EVENTOUT", 39 PE8 (io) "PE8/TIM1_CH1N,UART7_TX,FMC_D5,EVENTOUT", 40 PE9 (io) "PE9/TIM1_CH1,FMC_D6,EVENTOUT", 41 PE10 (io) "PE10/TIM1_CH2N,FMC_D7,EVENTOUT", 42 PE11 (io) "PE11/TIM1_CH2,SPI4_NSS,FMC_D8,LCD_G3,EVENTOUT", 43 PE12 (io) "PE12/TIM1_CH3N,SPI4_SCK,FMC_D9,LCD_B4,EVENTOUT", 44 PE13 (io) "PE13/TIM1_CH3,SPI4_MISO,FMC_D10,LCD_DE,EVENTOUT", 45 PE14 (io) "PE14/TIM1_CH4,SPI4_MOSI,FMC_D11,LCD_CLK,EVENTOUT", 46 PE15 (io) "PE15/TIM1_BKIN,FMC_D12,LCD_R7,EVENTOUT", 97 PE0 (io) "PE0/TIM4_ETR,UART8_RX,FMC_NBL0,DCMI_D2,EVENTOUT", 98 PE1 (io) "PE1/UART8_TX,FMC_NBL1,DCMI_D3,EVENTOUT"
part F pins: 12 PH0-OSC_IN(PH0) (io) "PH0-OSC_IN(PH0)/EVENTOUT/OSC_IN", 13 PH1-OSC_OUT(PH1) (io) "PH1-OSC_OUT(PH1)/EVENTOUT/OSC_OUT"
part G pins: 6 VBAT (power), 10 VSS (power), 11 VDD (power), 14 NRST (io), 19 VDD (power), 20 VSSA (power), 21 VREF+ (power), 22 VDDA (power), 27 VSS (power), 28 VDD (power), 49 VCAP_1 (power), 50 VDD (power), 73 VCAP_2 (power), 74 VSS (power), 75 VDD (power), 94 BOOT0 (in) "BOOT0/VPP", 99 VSS (power), 100 VDD (power)
part A text: MCU
part B text: MCU
part C text: MCU
part D text: MCU
part E text: MCU
part F text: MCU
part G text: MCU

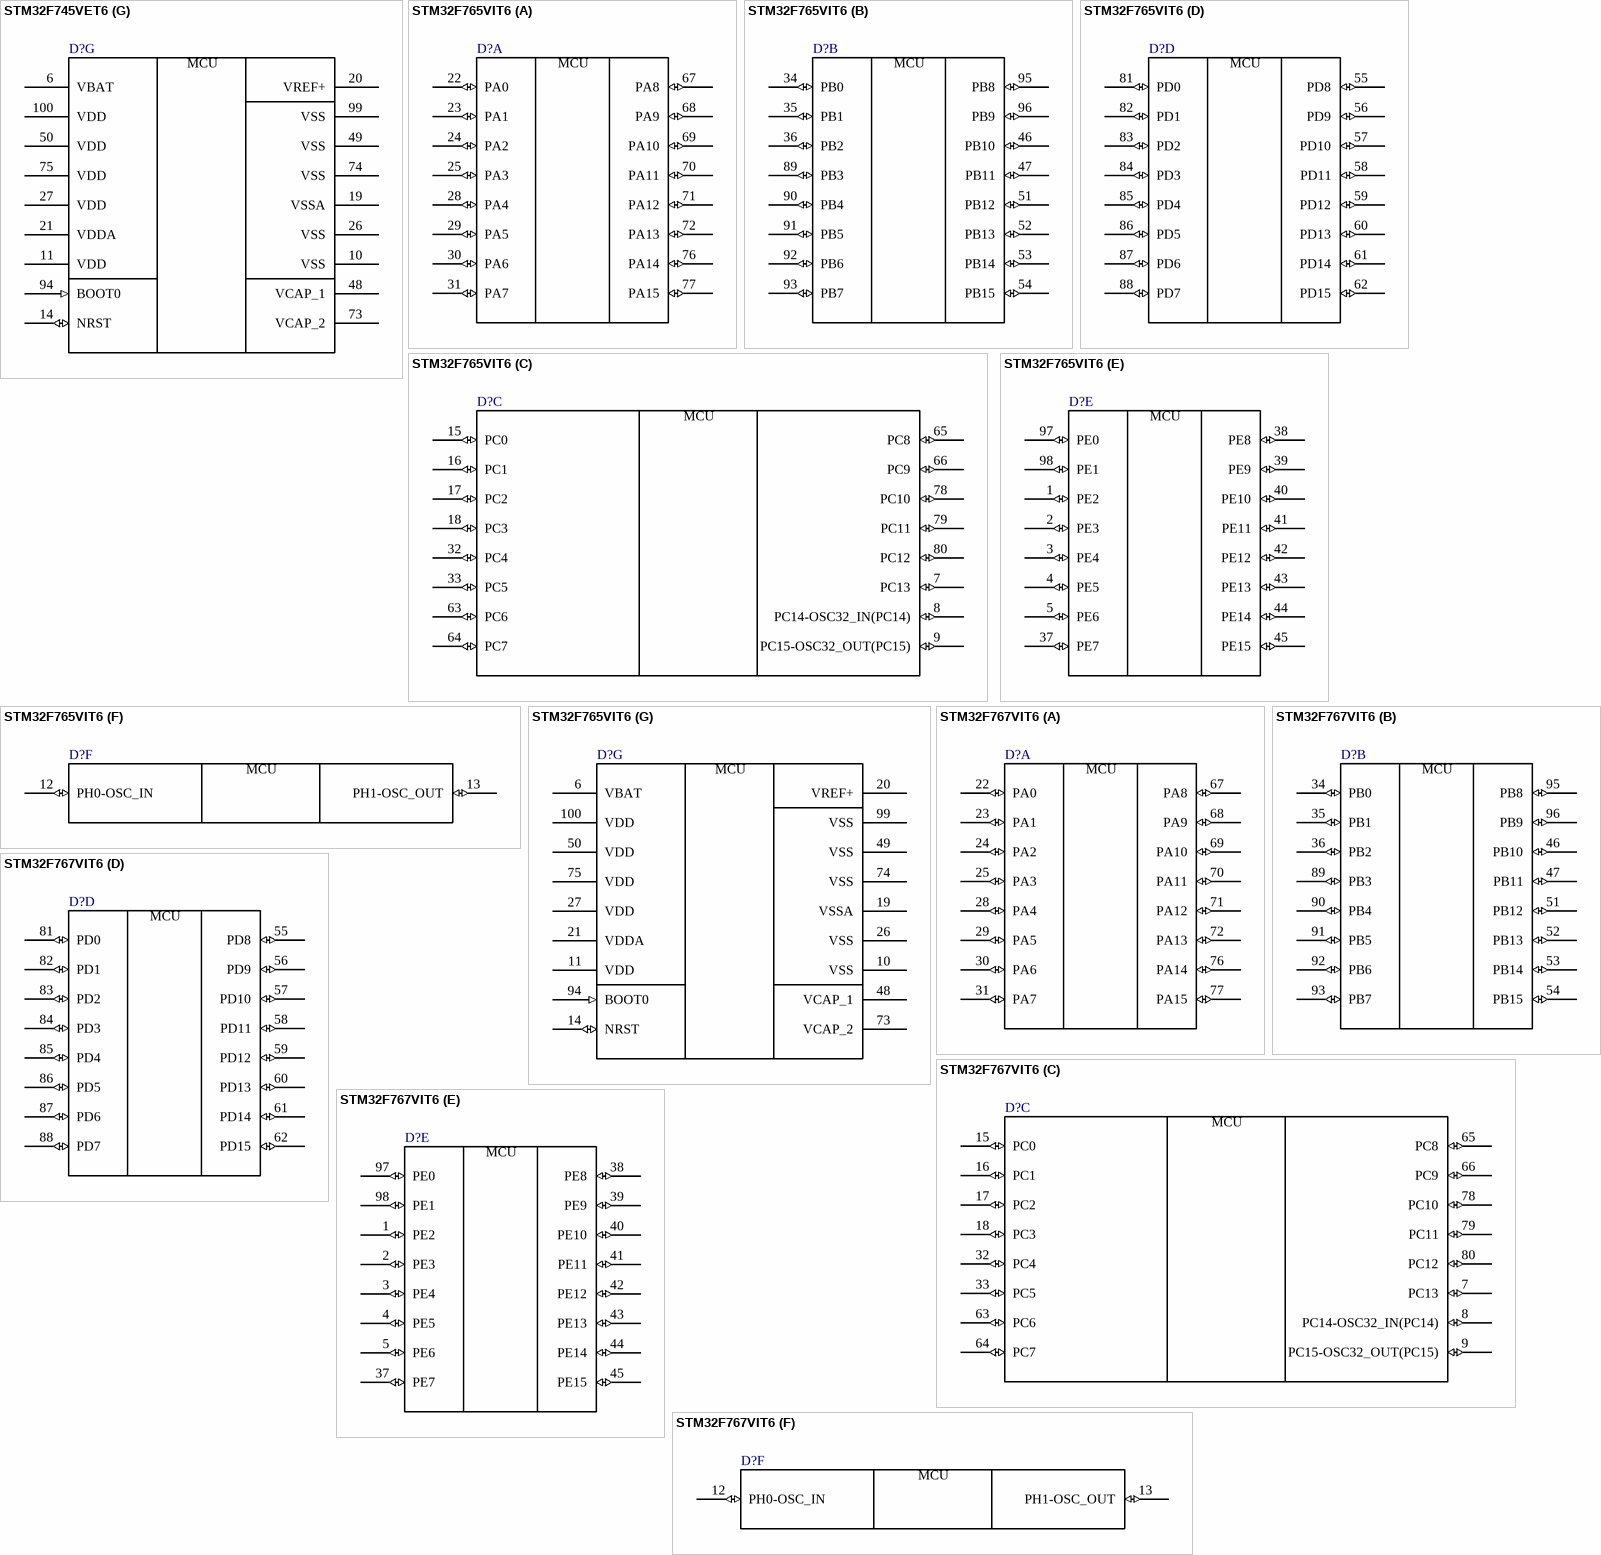
[diagram p13: symbols STM32F745VET6 to STM32F767VIT6]